# Altium schematic symbol library conn_terminalB.SchLib: 523 symbols (part 3 of 4)
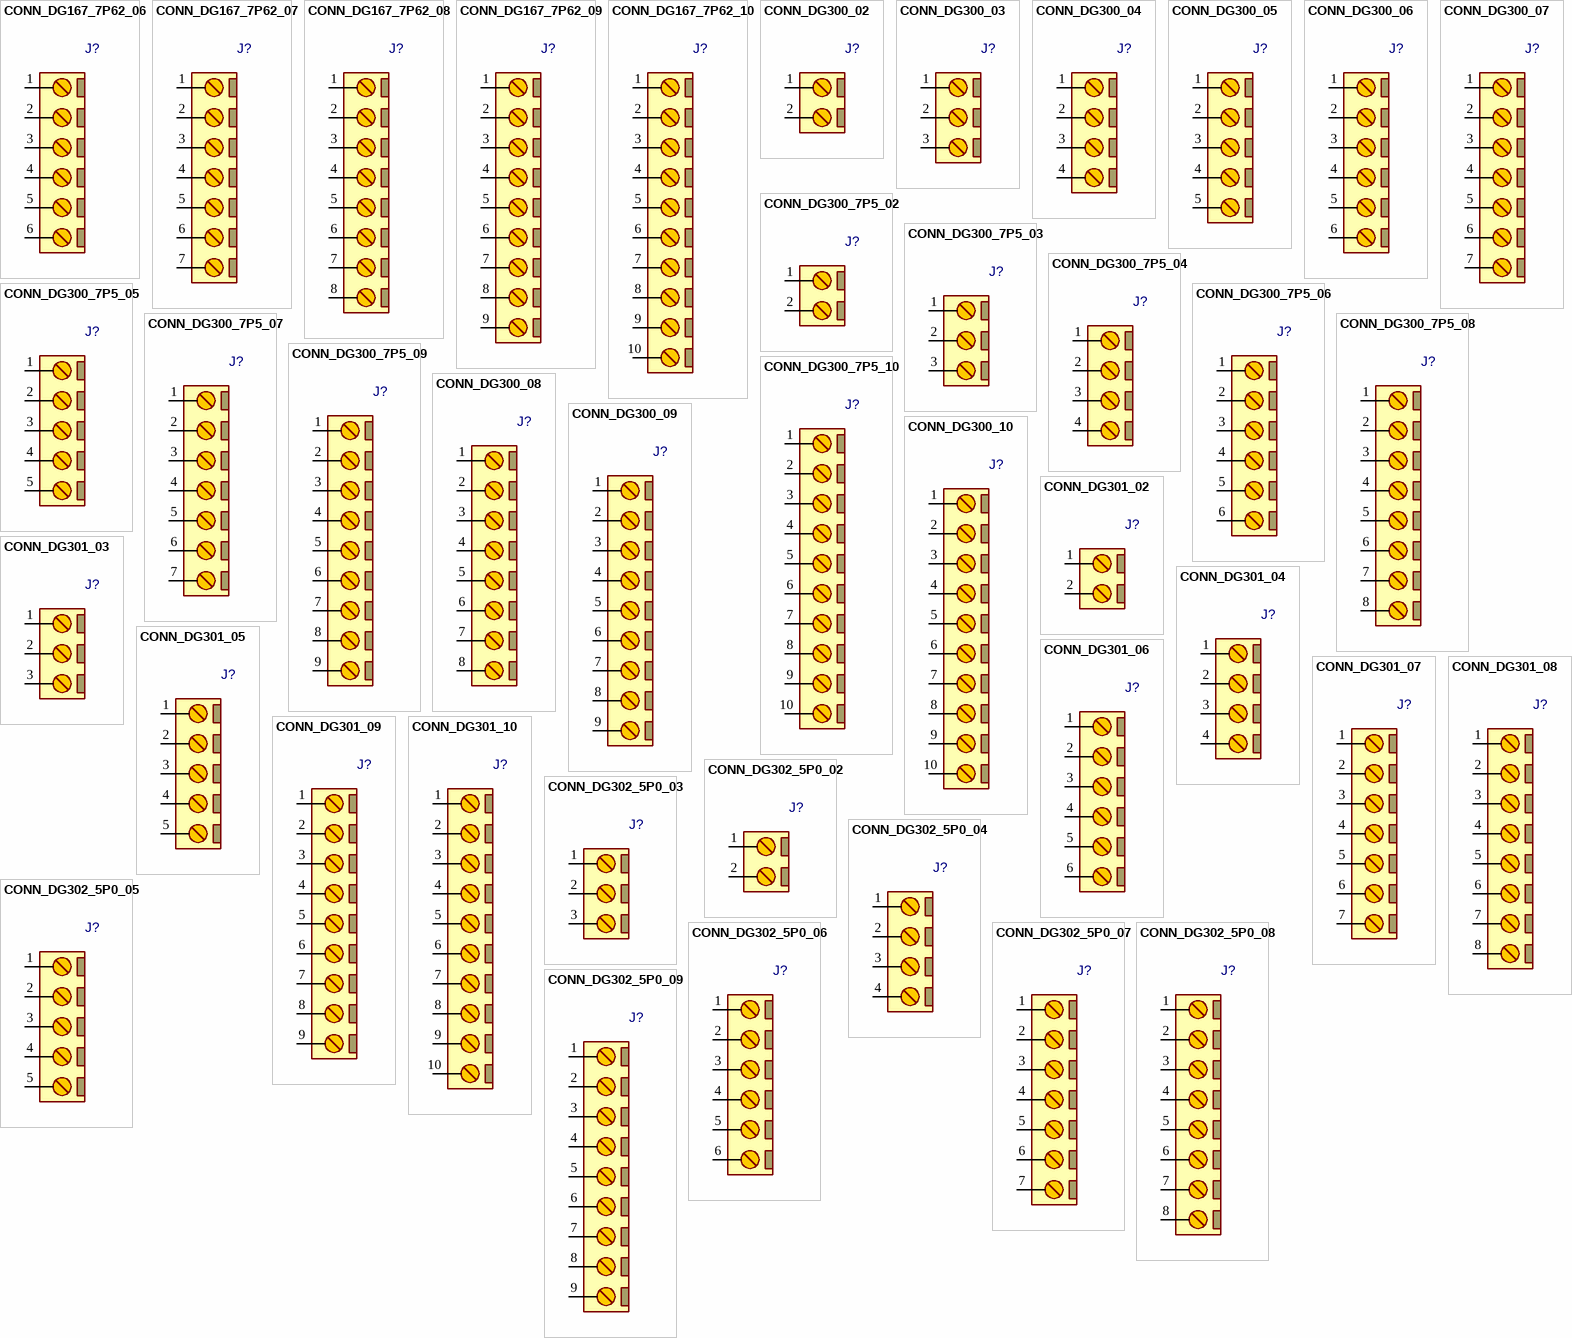
[diagram p15: symbols CONN_DG167_7P62_06 to CONN_DG302_5P0_09]

## CONN_DG300_7P5_09
designator J?, comment DG300_7P5_09  (value not drawn)
Terminal Block Screw, Pitch 7.5mm, H 12.6mm; MANF: DEGSON; MANF_P#: DG300-7.5-09P; PARAM2: 300v, -40~105°C; PARAM: 10A; VALUE: DG300_7P5_09; Mount Type: THT; Type: Conn.
footprint DG300_7P5_09 (Terminal B screw, Pitch 7.5mm, H 12.6mm)
pins: 1, 2, 3, 4, 5, 6, 7, 8, 9

## CONN_DG300_7P5_10
designator J?, comment DG300_7P5_10  (value not drawn)
Terminal Block Screw, Pitch 7.5mm, H 12.6mm; MANF: DEGSON; MANF_P#: DG300-7.5-10P; PARAM2: 300v, -40~105°C; PARAM: 10A; VALUE: DG300_7P5_10; Mount Type: THT; Type: Conn.
footprint DG300_7P5_10 (Terminal B screw, Pitch 7.5mm, H 12.6mm)
pins: 1, 2, 3, 4, 5, 6, 7, 8, 9, 10

## CONN_DG300_08
designator J?, comment DG300_5P0_08  (value not drawn)
Terminal Block Screw, Pitch 5mm, H 12.6mm; MANF: DEGSON; MANF_P#: DG300-5.0-08P, KF300-5.0-8P; PARAM2: 250v, -40~105°C; PARAM: 10A; VALUE: DG300_5P0_08; Mount Type: THT; Type: Conn.
footprint DG300_5P0_08 (Terminal Screw, Pitch 5mm, H 12.6mm)
pins: 1, 2, 3, 4, 5, 6, 7, 8

## CONN_DG300_09
designator J?, comment DG300_5P0_09  (value not drawn)
Terminal Block Screw, Pitch 5mm, H 12.6mm; MANF: DEGSON; MANF_P#: DG300-5.0-09P, KF300-5.0-9P; PARAM2: 250v, -40~105°C; PARAM: 10A; VALUE: DG300_5P0_09; Mount Type: THT; Type: Conn.
footprint DG300_5P0_09 (Terminal Screw, Pitch 5mm, H 12.6mm)
pins: 1, 2, 3, 4, 5, 6, 7, 8, 9

## CONN_DG300_10
designator J?, comment DG300_5P0_10  (value not drawn)
Terminal Block Screw, Pitch 5mm, H 12.6mm; MANF: DEGSON; MANF_P#: DG300-5.0-10P, KF300-5.0-10P; PARAM2: 250v, -40~105°C; PARAM: 10A; VALUE: DG300_5P0_10; Mount Type: THT; Type: Conn.
footprint DG300_5P0_10 (Terminal Screw, Pitch 5mm, H 12.6mm)
pins: 1, 2, 3, 4, 5, 6, 7, 8, 9, 10

## CONN_DG301_02
designator J?, comment DG301_5P0_02  (value not drawn)
Terminal Block Screw, Pitch 5mm, H 10mm; MANF: DEGSON; MANF_P#: DG301-5.0-02P, KF301-5.0-2P; PARAM2: 250v, -40~105°C; PARAM: 15A; VALUE: DG301_5P0_02; Mount Type: THT; Type: Conn.
footprint DG301_02 (Terminal Screw, Pitch 5mm, Blue, H 10mm)
footprint DG301_02_WS (Terminal Screw, Pitch 5mm, H 10mm, with spade)
pins: 1, 2

## CONN_DG301_03
designator J?, comment DG301_5P0_03  (value not drawn)
Terminal Block Screw, Pitch 5mm, H 10mm; MANF: DEGSON; MANF_P#: DG301-5.0-03P, KF301-5.0-3P; PARAM2: 250v, -40~105°C; PARAM: 15A; VALUE: DG301_5P0_03; Mount Type: THT; Type: Conn.
footprint DG301_03 (Terminal Screw, Pitch 5mm, Blue, H 10mm)
footprint DG301_03_WS (Terminal Screw, Pitch 5mm, H 10mm, with spade)
pins: 1, 2, 3

## CONN_DG301_04
designator J?, comment DG301_5P0_04  (value not drawn)
Terminal Block Screw, Pitch 5mm, H 10mm; MANF: DEGSON; MANF_P#: DG301-5.0-04P, KF301-5.0-4P; PARAM2: 250v, -40~105°C; PARAM: 15A; VALUE: DG301_5P0_04; Mount Type: THT; Type: Conn.
footprint DG301_04 (Terminal Screw, Pitch 5mm, Blue, H 10mm)
footprint DG301_04_WS (Terminal Screw, Pitch 5mm, H 10mm, with spade)
pins: 1, 2, 3, 4

## CONN_DG301_05
designator J?, comment DG301_5P0_05  (value not drawn)
Terminal Block Screw, Pitch 5mm, H 10mm; MANF: DEGSON; MANF_P#: DG301-5.0-05P, KF301-5.0-5P; PARAM2: 250v, -40~105°C; PARAM: 15A; VALUE: DG301_5P0_05; Mount Type: THT; Type: Conn.
footprint DG301_05 (Terminal Screw, Pitch 5mm, Blue, H 10mm)
footprint DG301_05_WS (Terminal Screw, Pitch 5mm, H 10mm, with spade)
pins: 1, 2, 3, 4, 5

## CONN_DG301_06
designator J?, comment DG301_5P0_06  (value not drawn)
Terminal Block Screw, Pitch 5mm, H 10mm; MANF: DEGSON; MANF_P#: DG301-5.0-06P, KF301-5.0-6P; PARAM2: 250v, -40~105°C; PARAM: 15A; VALUE: DG301_5P0_06; Mount Type: THT; Type: Conn.
footprint DG301_06 (Terminal Screw, Pitch 5mm, Blue, H 10mm)
footprint DG301_06_WS (Terminal Screw, Pitch 5mm, H 10mm, with spade)
pins: 1, 2, 3, 4, 5, 6

## CONN_DG301_07
designator J?, comment DG301_5P0_07  (value not drawn)
Terminal Block Screw, Pitch 5mm, H 10mm; MANF: DEGSON; MANF_P#: DG301-5.0-07P, KF301-5.0-7P; PARAM2: 250v, -40~105°C; PARAM: 15A; VALUE: DG301_5P0_07; Mount Type: THT; Type: Conn.
footprint DG301_07 (Terminal Screw, Pitch 5mm, Blue, H 10mm)
footprint DG301_07_WS (Terminal Screw, Pitch 5mm, H 10mm, with spade)
pins: 1, 2, 3, 4, 5, 6, 7

## CONN_DG301_08
designator J?, comment DG301_5P0_08  (value not drawn)
Terminal Block Screw, Pitch 5mm, H 10mm; MANF: DEGSON; MANF_P#: DG301-5.0-08P, KF301-5.0-8P; PARAM2: 250v, -40~105°C; PARAM: 15A; VALUE: DG301_5P0_08; Mount Type: THT; Type: Conn.
footprint DG301_08 (Terminal Screw, Pitch 5mm, Blue, H 10mm)
footprint DG301_08_WS (Terminal Screw, Pitch 5mm, H 10mm, with spade)
pins: 1, 2, 3, 4, 5, 6, 7, 8

## CONN_DG301_09
designator J?, comment DG301_5P0_09  (value not drawn)
Terminal Block Screw, Pitch 5mm, H 10mm; MANF: DEGSON; MANF_P#: DG301-5.0-09P, KF301-5.0-9P; PARAM2: 250v, -40~105°C; PARAM: 15A; VALUE: DG301_5P0_09; Mount Type: THT; Type: Conn.
footprint DG301_09 (Terminal Screw, Pitch 5mm, Blue, H 10mm)
footprint DG301_09_WS (Terminal Screw, Pitch 5mm, H 10mm, with spade)
pins: 1, 2, 3, 4, 5, 6, 7, 8, 9

## CONN_DG301_10
designator J?, comment DG301_5P0_10  (value not drawn)
Terminal Block Screw, Pitch 5mm, H 10mm; MANF: DEGSON; MANF_P#: DG301-5.0-10P, KF301-5.0-10P; PARAM2: 250v, -40~105°C; PARAM: 15A; VALUE: DG301_5P0_10; Mount Type: THT; Type: Conn.
footprint DG301_10 (Terminal Screw, Pitch 5mm, Blue, H 10mm)
footprint DG301_10_WS (Terminal Screw, Pitch 5mm, H 10mm, with spade)
pins: 1, 2, 3, 4, 5, 6, 7, 8, 9, 10

## CONN_DG302_5P0_02
designator J?, comment DG302_5P0_02  (value not drawn)
Terminal Block Screw, Pitch 5mm, H 13.5mm; MANF: DEGSON; MANF_P#: DG302-5.0-02P; PARAM2: 250v, -40~105°C; PARAM: 20A; VALUE: DG302_5P0_02; Mount Type: THT; Type: Conn.
footprint DG302_5P0_02 (Terminal Screw, Pitch 5mm, H 13.5mm)
pins: 1, 2

## CONN_DG302_5P0_03
designator J?, comment DG302_5P0_03  (value not drawn)
Terminal Block Screw, Pitch 5mm, H 13.5mm; MANF: DEGSON; MANF_P#: DG302-5.0-03P; PARAM2: 250v, -40~105°C; PARAM: 20A; VALUE: DG302_5P0_03; Mount Type: THT; Type: Conn.
footprint DG302_5P0_03 (Terminal Screw, Pitch 5mm, H 13.5mm)
pins: 1, 2, 3

## CONN_DG302_5P0_04
designator J?, comment DG302_5P0_04  (value not drawn)
Terminal Block Screw, Pitch 5mm, H 13.5mm; MANF: DEGSON; MANF_P#: DG302-5.0-04P; PARAM2: 250v, -40~105°C; PARAM: 20A; VALUE: DG302_5P0_04; Mount Type: THT; Type: Conn.
footprint DG302_5P0_04 (Terminal Screw, Pitch 5mm, H 13.5mm)
pins: 1, 2, 3, 4

## CONN_DG302_5P0_05
designator J?, comment DG302_5P0_05  (value not drawn)
Terminal Block Screw, Pitch 5mm, H 13.5mm; MANF: DEGSON; MANF_P#: DG302-5.0-05P; PARAM2: 250v, -40~105°C; PARAM: 20A; VALUE: DG302_5P0_05; Mount Type: THT; Type: Conn.
footprint DG302_5P0_05 (Terminal Screw, Pitch 5mm, H 13.5mm)
pins: 1, 2, 3, 4, 5

## CONN_DG302_5P0_06
designator J?, comment DG302_5P0_06  (value not drawn)
Terminal Block Screw, Pitch 5mm, H 13.5mm; MANF: DEGSON; MANF_P#: DG302-5.0-06P; PARAM2: 250v, -40~105°C; PARAM: 20A; VALUE: DG302_5P0_06; Mount Type: THT; Type: Conn.
footprint DG302_5P0_06 (Terminal Screw, Pitch 5mm, H 13.5mm)
pins: 1, 2, 3, 4, 5, 6

## CONN_DG302_5P0_07
designator J?, comment DG302_5P0_07  (value not drawn)
Terminal Block Screw, Pitch 5mm, H 13.5mm; MANF: DEGSON; MANF_P#: DG302-5.0-07P; PARAM2: 250v, -40~105°C; PARAM: 20A; VALUE: DG302_5P0_07; Mount Type: THT; Type: Conn.
footprint DG302_5P0_07 (Terminal Screw, Pitch 5mm, H 13.5mm)
pins: 1, 2, 3, 4, 5, 6, 7

## CONN_DG302_5P0_08
designator J?, comment DG302_5P0_08  (value not drawn)
Terminal Block Screw, Pitch 5mm, H 13.5mm; MANF: DEGSON; MANF_P#: DG302-5.0-08P; PARAM2: 250v, -40~105°C; PARAM: 20A; VALUE: DG302_5P0_08; Mount Type: THT; Type: Conn.
footprint DG302_5P0_08 (Terminal Screw, Pitch 5mm, H 13.5mm)
pins: 1, 2, 3, 4, 5, 6, 7, 8

## CONN_DG302_5P0_09
designator J?, comment DG302_5P0_09  (value not drawn)
Terminal Block Screw, Pitch 5mm, H 13.5mm; MANF: DEGSON; MANF_P#: DG302-5.0-09P; PARAM2: 250v, -40~105°C; PARAM: 20A; VALUE: DG302_5P0_09; Mount Type: THT; Type: Conn.
footprint DG302_5P0_09 (Terminal Screw, Pitch 5mm, H 13.5mm)
pins: 1, 2, 3, 4, 5, 6, 7, 8, 9

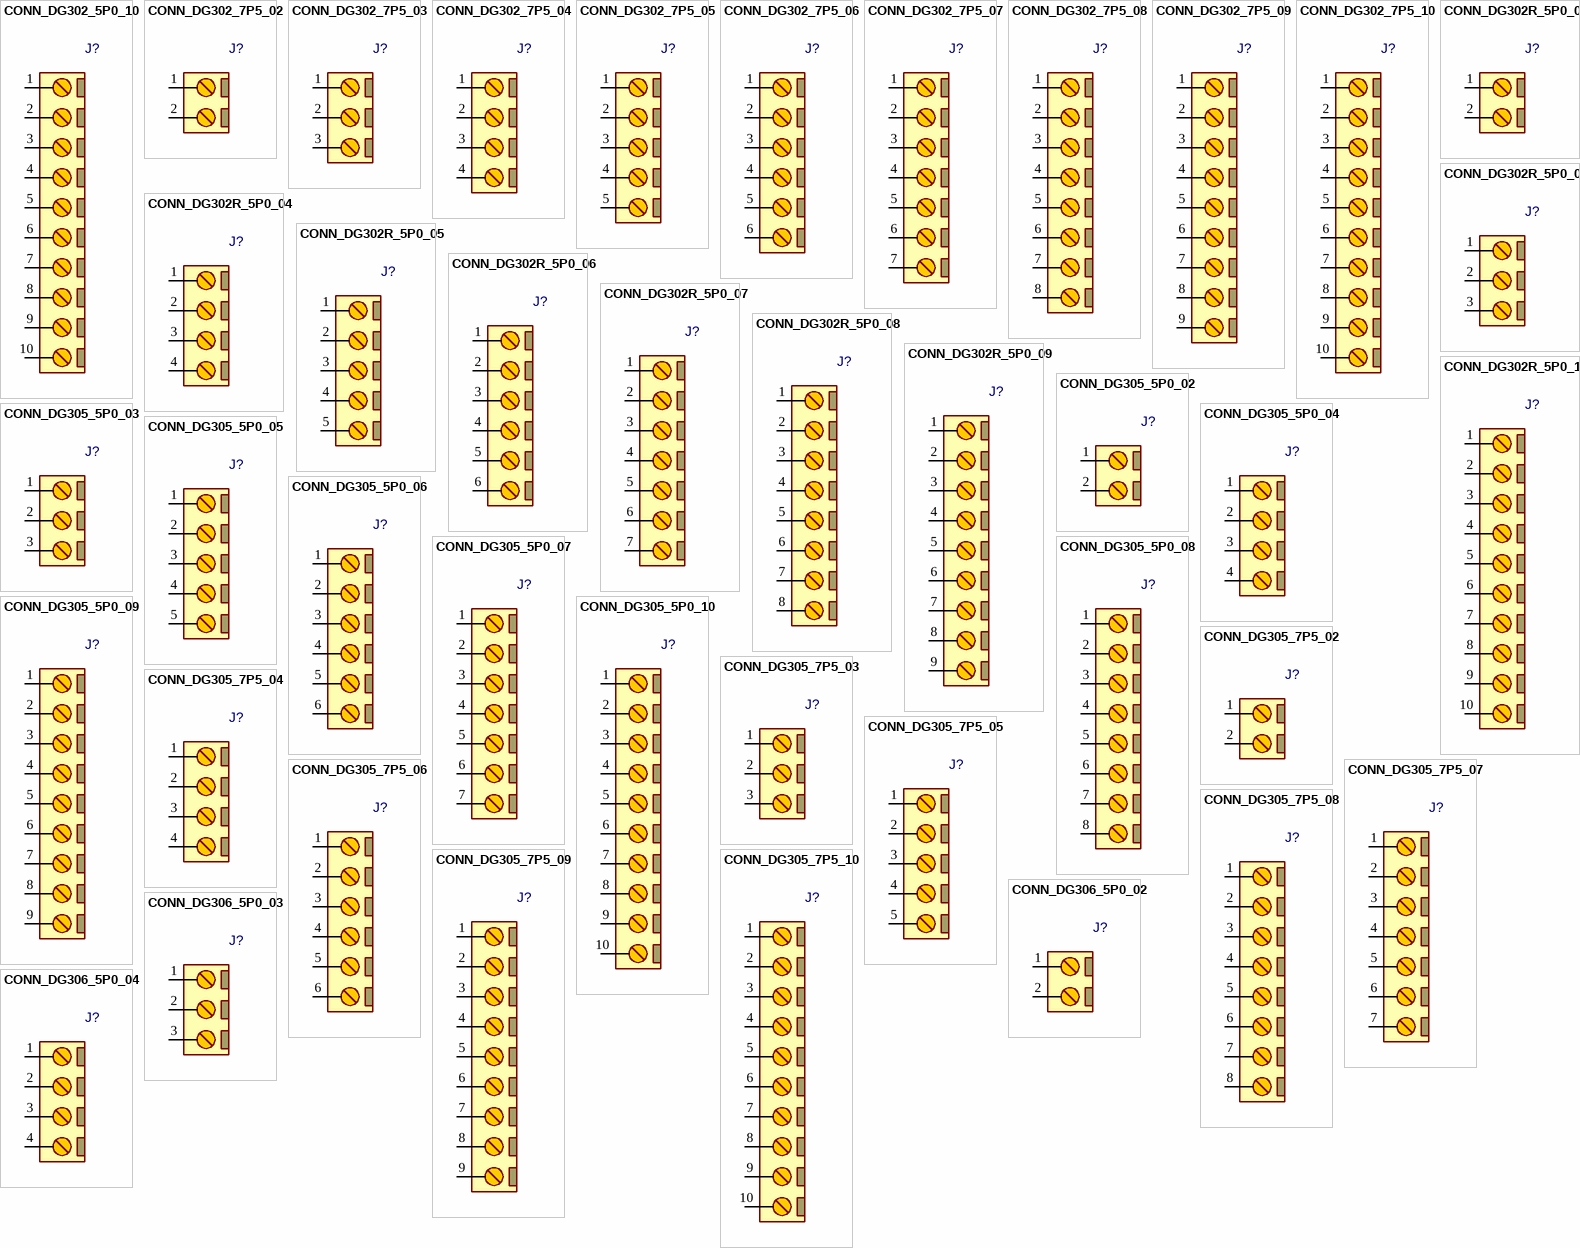
[diagram p7: symbols CONN_DG302_5P0_10 to CONN_DG306_5P0_04]

## CONN_DG302_5P0_10
designator J?, comment DG302_5P0_10  (value not drawn)
Terminal Block Screw, Pitch 5mm, H 13.5mm; MANF: DEGSON; MANF_P#: DG302-5.0-10P; PARAM2: 250v, -40~105°C; PARAM: 20A; VALUE: DG302_5P0_10; Mount Type: THT; Type: Conn.
footprint DG302_5P0_10 (Terminal Screw, Pitch 5mm, H 13.5mm)
pins: 1, 2, 3, 4, 5, 6, 7, 8, 9, 10

## CONN_DG302_7P5_02
designator J?, comment DG302_7P5_02  (value not drawn)
Terminal Block Screw, Pitch 7.5mm, H 13.5mm; MANF: DEGSON; MANF_P#: DG302-7.5-02P; PARAM2: 300v, -40~105°C; PARAM: 20A; VALUE: DG302_7P5_02; Mount Type: THT; Type: Conn.
footprint DG302_7P5_02 (Terminal B screw, Pitch 7.5mm, H 13.5mm)
pins: 1, 2

## CONN_DG302_7P5_03
designator J?, comment DG302_7P5_03  (value not drawn)
Terminal Block Screw, Pitch 7.5mm, H 13.5mm; MANF: DEGSON; MANF_P#: DG302-7.5-03P; PARAM2: 300v, -40~105°C; PARAM: 20A; VALUE: DG302_7P5_03; Mount Type: THT; Type: Conn.
footprint DG302_7P5_03 (Terminal B screw, Pitch 7.5mm, H 13.5mm)
pins: 1, 2, 3

## CONN_DG302_7P5_04
designator J?, comment DG302_7P5_04  (value not drawn)
Terminal Block Screw, Pitch 7.5mm, H 13.5mm; MANF: DEGSON; MANF_P#: DG302-7.5-04P; PARAM2: 300v, -40~105°C; PARAM: 20A; VALUE: DG302_7P5_04; Mount Type: THT; Type: Conn.
footprint DG302_7P5_04 (Terminal B screw, Pitch 7.5mm, H 13.5mm)
pins: 1, 2, 3, 4

## CONN_DG302_7P5_05
designator J?, comment DG302_7P5_05  (value not drawn)
Terminal Block Screw, Pitch 7.5mm, H 13.5mm; MANF: DEGSON; MANF_P#: DG302-7.5-05P; PARAM2: 300v, -40~105°C; PARAM: 20A; VALUE: DG302_7P5_05; Mount Type: THT; Type: Conn.
footprint DG302_7P5_05 (Terminal B screw, Pitch 7.5mm, H 13.5mm)
pins: 1, 2, 3, 4, 5

## CONN_DG302_7P5_06
designator J?, comment DG302_7P5_06  (value not drawn)
Terminal Block Screw, Pitch 7.5mm, H 13.5mm; MANF: DEGSON; MANF_P#: DG302-7.5-06P; PARAM2: 300v, -40~105°C; PARAM: 20A; VALUE: DG302_7P5_06; Mount Type: THT; Type: Conn.
footprint DG302_7P5_06 (Terminal B screw, Pitch 7.5mm, H 13.5mm)
pins: 1, 2, 3, 4, 5, 6

## CONN_DG302_7P5_07
designator J?, comment DG302_7P5_07  (value not drawn)
Terminal Block Screw, Pitch 7.5mm, H 13.5mm; MANF: DEGSON; MANF_P#: DG302-7.5-07P; PARAM2: 300v, -40~105°C; PARAM: 20A; VALUE: DG302_7P5_07; Mount Type: THT; Type: Conn.
footprint DG302_7P5_07 (Terminal B screw, Pitch 7.5mm, H 13.5mm)
pins: 1, 2, 3, 4, 5, 6, 7

## CONN_DG302_7P5_08
designator J?, comment DG302_7P5_08  (value not drawn)
Terminal Block Screw, Pitch 7.5mm, H 13.5mm; MANF: DEGSON; MANF_P#: DG302-7.5-08P; PARAM2: 300v, -40~105°C; PARAM: 20A; VALUE: DG302_7P5_08; Mount Type: THT; Type: Conn.
footprint DG302_7P5_08 (Terminal B screw, Pitch 7.5mm, H 13.5mm)
pins: 1, 2, 3, 4, 5, 6, 7, 8

## CONN_DG302_7P5_09
designator J?, comment DG302_7P5_09  (value not drawn)
Terminal Block Screw, Pitch 7.5mm, H 13.5mm; MANF: DEGSON; MANF_P#: DG302-7.5-09P; PARAM2: 300v, -40~105°C; PARAM: 20A; VALUE: DG302_7P5_09; Mount Type: THT; Type: Conn.
footprint DG302_7P5_09 (Terminal B screw, Pitch 7.5mm, H 13.5mm)
pins: 1, 2, 3, 4, 5, 6, 7, 8, 9

## CONN_DG302_7P5_10
designator J?, comment DG302_7P5_10  (value not drawn)
Terminal Block Screw, Pitch 7.5mm, H 13.5mm; MANF: DEGSON; MANF_P#: DG302-7.5-10P; PARAM2: 300v, -40~105°C; PARAM: 20A; VALUE: DG302_7P5_10; Mount Type: THT; Type: Conn.
footprint DG302_7P5_10 (Terminal B screw, Pitch 7.5mm, H 13.5mm)
pins: 1, 2, 3, 4, 5, 6, 7, 8, 9, 10

## CONN_DG302R_5P0_02
designator J?, comment DG302R_5P0_02  (value not drawn)
Terminal Block Screw, Pitch 5mm, RightAngle, H 9mm; MANF: DEGSON; MANF_P#: DG302R-5.0-02P; PARAM2: 250v, -40~105°C; PARAM: 20A; VALUE: DG302R_5P0_02; Mount Type: THT; Type: Conn.
footprint DG302R_5P0_02 (Terminal Screw, Pitch 5mm, H 9mm)
pins: 1, 2

## CONN_DG302R_5P0_03
designator J?, comment DG302R_5P0_03  (value not drawn)
Terminal Block Screw, Pitch 5mm, RightAngle, H 9mm; MANF: DEGSON; MANF_P#: DG302R-5.0-03P; PARAM2: 250v, -40~105°C; PARAM: 20A; VALUE: DG302R_5P0_03; Mount Type: THT; Type: Conn.
footprint DG302R_5P0_03 (Terminal Screw, Pitch 5mm, H 9mm)
pins: 1, 2, 3

## CONN_DG302R_5P0_04
designator J?, comment DG302R_5P0_04  (value not drawn)
Terminal Block Screw, Pitch 5mm, RightAngle, H 9mm; MANF: DEGSON; MANF_P#: DG302R-5.0-04P; PARAM2: 250v, -40~105°C; PARAM: 20A; VALUE: DG302R_5P0_04; Mount Type: THT; Type: Conn.
footprint DG302R_5P0_04 (Terminal Screw, Pitch 5mm, H 9mm)
pins: 1, 2, 3, 4

## CONN_DG302R_5P0_05
designator J?, comment DG302R_5P0_05  (value not drawn)
Terminal Block Screw, Pitch 5mm, RightAngle, H 9mm; MANF: DEGSON; MANF_P#: DG302R-5.0-05P; PARAM2: 250v, -40~105°C; PARAM: 20A; VALUE: DG302R_5P0_05; Mount Type: THT; Type: Conn.
footprint DG302R_5P0_05 (Terminal Screw, Pitch 5mm, H 9mm)
pins: 1, 2, 3, 4, 5

## CONN_DG302R_5P0_06
designator J?, comment DG302R_5P0_06  (value not drawn)
Terminal Block Screw, Pitch 5mm, RightAngle, H 9mm; MANF: DEGSON; MANF_P#: DG302R-5.0-06P; PARAM2: 250v, -40~105°C; PARAM: 20A; VALUE: DG302R_5P0_06; Mount Type: THT; Type: Conn.
footprint DG302R_5P0_06 (Terminal Screw, Pitch 5mm, H 9mm)
pins: 1, 2, 3, 4, 5, 6

## CONN_DG302R_5P0_07
designator J?, comment DG302R_5P0_07  (value not drawn)
Terminal Block Screw, Pitch 5mm, RightAngle, H 9mm; MANF: DEGSON; MANF_P#: DG302R-5.0-07P; PARAM2: 250v, -40~105°C; PARAM: 20A; VALUE: DG302R_5P0_07; Mount Type: THT; Type: Conn.
footprint DG302R_5P0_07 (Terminal Screw, Pitch 5mm, H 9mm)
pins: 1, 2, 3, 4, 5, 6, 7

## CONN_DG302R_5P0_08
designator J?, comment DG302R_5P0_08  (value not drawn)
Terminal Block Screw, Pitch 5mm, RightAngle, H 9mm; MANF: DEGSON; MANF_P#: DG302R-5.0-08P; PARAM2: 250v, -40~105°C; PARAM: 20A; VALUE: DG302R_5P0_08; Mount Type: THT; Type: Conn.
footprint DG302R_5P0_08 (Terminal Screw, Pitch 5mm, H 9mm)
pins: 1, 2, 3, 4, 5, 6, 7, 8

## CONN_DG302R_5P0_09
designator J?, comment DG302R_5P0_09  (value not drawn)
Terminal Block Screw, Pitch 5mm, RightAngle, H 9mm; MANF: DEGSON; MANF_P#: DG302R-5.0-09P; PARAM2: 250v, -40~105°C; PARAM: 20A; VALUE: DG302R_5P0_09; Mount Type: THT; Type: Conn.
footprint DG302R_5P0_09 (Terminal Screw, Pitch 5mm, H 9mm)
pins: 1, 2, 3, 4, 5, 6, 7, 8, 9

## CONN_DG302R_5P0_10
designator J?, comment DG302R_5P0_10  (value not drawn)
Terminal Block Screw, Pitch 5mm, RightAngle, H 9mm; MANF: DEGSON; MANF_P#: DG302R-5.0-10P; PARAM2: 250v, -40~105°C; PARAM: 20A; VALUE: DG302R_5P0_10; Mount Type: THT; Type: Conn.
footprint DG302R_5P0_10 (Terminal Screw, Pitch 5mm, H 9mm)
pins: 1, 2, 3, 4, 5, 6, 7, 8, 9, 10

## CONN_DG305_5P0_02
designator J?, comment DG305_5P0_02  (value not drawn)
Terminal Block Screw, Pitch 5mm, H 12.6mm; MANF: DEGSON; MANF_P#: DG305-5.0-02P, KF305-5.0-2P; PARAM2: 250v, -40~105°C; PARAM: 15A; VALUE: DG305_5P0_02; Mount Type: THT; Type: Conn.
footprint DG305_5P0_02 (Terminal B Screw, Pitch 5mm, H 12.6mm)
pins: 1, 2

## CONN_DG305_5P0_03
designator J?, comment DG305_5P0_03  (value not drawn)
Terminal Block Screw, Pitch 5mm, H 12.6mm; MANF: DEGSON; MANF_P#: DG305-5.0-03P, KF305-5.0-3P; PARAM2: 250v, -40~105°C; PARAM: 15A; VALUE: DG305_5P0_03; Mount Type: THT; Type: Conn.
footprint DG305_5P0_03 (Terminal B Screw, Pitch 5mm, H 12.6mm)
pins: 1, 2, 3

## CONN_DG305_5P0_04
designator J?, comment DG305_5P0_04  (value not drawn)
Terminal Block Screw, Pitch 5mm, H 12.6mm; MANF: DEGSON; MANF_P#: DG305-5.0-04P, KF305-5.0-4P; PARAM2: 250v, -40~105°C; PARAM: 15A; VALUE: DG305_5P0_04; Mount Type: THT; Type: Conn.
footprint DG305_5P0_04 (Terminal B Screw, Pitch 5mm, H 12.6mm)
pins: 1, 2, 3, 4

## CONN_DG305_5P0_05
designator J?, comment DG305_5P0_05  (value not drawn)
Terminal Block Screw, Pitch 5mm, H 12.6mm; MANF: DEGSON; MANF_P#: DG305-5.0-05P, KF305-5.0-5P; PARAM2: 250v, -40~105°C; PARAM: 15A; VALUE: DG305_5P0_05; Mount Type: THT; Type: Conn.
footprint DG305_5P0_05 (Terminal B Screw, Pitch 5mm, H 12.6mm)
pins: 1, 2, 3, 4, 5

## CONN_DG305_5P0_06
designator J?, comment DG305_5P0_06  (value not drawn)
Terminal Block Screw, Pitch 5mm, H 12.6mm; MANF: DEGSON; MANF_P#: DG305-5.0-06P, KF305-5.0-6P; PARAM2: 250v, -40~105°C; PARAM: 15A; VALUE: DG305_5P0_06; Mount Type: THT; Type: Conn.
footprint DG305_5P0_06 (Terminal B Screw, Pitch 5mm, H 12.6mm)
pins: 1, 2, 3, 4, 5, 6

## CONN_DG305_5P0_07
designator J?, comment DG305_5P0_07  (value not drawn)
Terminal Block Screw, Pitch 5mm, H 12.6mm; MANF: DEGSON; MANF_P#: DG305-5.0-07P, KF305-5.0-7P; PARAM2: 250v, -40~105°C; PARAM: 15A; VALUE: DG305_5P0_07; Mount Type: THT; Type: Conn.
footprint DG305_5P0_07 (Terminal B Screw, Pitch 5mm, H 12.6mm)
pins: 1, 2, 3, 4, 5, 6, 7

## CONN_DG305_5P0_08
designator J?, comment DG305_5P0_08  (value not drawn)
Terminal Block Screw, Pitch 5mm, H 12.6mm; MANF: DEGSON; MANF_P#: DG305-5.0-08P, KF305-5.0-8P; PARAM2: 250v, -40~105°C; PARAM: 15A; VALUE: DG305_5P0_08; Mount Type: THT; Type: Conn.
footprint DG305_5P0_08 (Terminal B Screw, Pitch 5mm, H 12.6mm)
pins: 1, 2, 3, 4, 5, 6, 7, 8

## CONN_DG305_5P0_09
designator J?, comment DG305_5P0_09  (value not drawn)
Terminal Block Screw, Pitch 5mm, H 12.6mm; MANF: DEGSON; MANF_P#: DG305-5.0-09P, KF305-5.0-9P; PARAM2: 250v, -40~105°C; PARAM: 15A; VALUE: DG305_5P0_09; Mount Type: THT; Type: Conn.
footprint DG305_5P0_09 (Terminal B Screw, Pitch 5mm, H 12.6mm)
pins: 1, 2, 3, 4, 5, 6, 7, 8, 9

## CONN_DG305_5P0_10
designator J?, comment DG305_5P0_10  (value not drawn)
Terminal Block Screw, Pitch 5mm, H 12.6mm; MANF: DEGSON; MANF_P#: DG305-5.0-10P, KF305-5.0-10P; PARAM2: 250v, -40~105°C; PARAM: 15A; VALUE: DG305_5P0_10; Mount Type: THT; Type: Conn.
footprint DG305_5P0_10 (Terminal B Screw, Pitch 5mm, H 12.6mm)
pins: 1, 2, 3, 4, 5, 6, 7, 8, 9, 10

## CONN_DG305_7P5_02
designator J?, comment DG305_7P5_02  (value not drawn)
Terminal Block Screw, Pitch 7.5mm, H 12.7mm; MANF: DEGSON; MANF_P#: DG305-7.5-02P; PARAM2: 300v, -40~105°C; PARAM: 15A; VALUE: DG305_7P5_02; Mount Type: THT; Type: Conn.
footprint DG305_7P5_02 (Terminal B screw, Pitch 7.5mm, H 12.7mm)
pins: 1, 2

## CONN_DG305_7P5_03
designator J?, comment DG305_7P5_03  (value not drawn)
Terminal Block Screw, Pitch 7.5mm, H 12.7mm; MANF: DEGSON; MANF_P#: DG305-7.5-03P; PARAM2: 300v, -40~105°C; PARAM: 15A; VALUE: DG305_7P5_03; Mount Type: THT; Type: Conn.
footprint DG305_7P5_03 (Terminal B screw, Pitch 7.5mm, H 12.7mm)
pins: 1, 2, 3

## CONN_DG305_7P5_04
designator J?, comment DG305_7P5_04  (value not drawn)
Terminal Block Screw, Pitch 7.5mm, H 12.7mm; MANF: DEGSON; MANF_P#: DG305-7.5-04P; PARAM2: 300v, -40~105°C; PARAM: 15A; VALUE: DG305_7P5_04; Mount Type: THT; Type: Conn.
footprint DG305_7P5_04 (Terminal B screw, Pitch 7.5mm, H 12.7mm)
pins: 1, 2, 3, 4

## CONN_DG305_7P5_05
designator J?, comment DG305_7P5_05  (value not drawn)
Terminal Block Screw, Pitch 7.5mm, H 12.7mm; MANF: DEGSON; MANF_P#: DG305-7.5-05P; PARAM2: 300v, -40~105°C; PARAM: 15A; VALUE: DG305_7P5_05; Mount Type: THT; Type: Conn.
footprint DG305_7P5_05 (Terminal B screw, Pitch 7.5mm, H 12.7mm)
pins: 1, 2, 3, 4, 5

## CONN_DG305_7P5_06
designator J?, comment DG305_7P5_06  (value not drawn)
Terminal Block Screw, Pitch 7.5mm, H 12.7mm; MANF: DEGSON; MANF_P#: DG305-7.5-06P; PARAM2: 300v, -40~105°C; PARAM: 15A; VALUE: DG305_7P5_06; Mount Type: THT; Type: Conn.
footprint DG305_7P5_06 (Terminal B screw, Pitch 7.5mm, H 12.7mm)
pins: 1, 2, 3, 4, 5, 6

## CONN_DG305_7P5_07
designator J?, comment DG305_7P5_07  (value not drawn)
Terminal Block Screw, Pitch 7.5mm, H 12.7mm; MANF: DEGSON; MANF_P#: DG305-7.5-07P; PARAM2: 300v, -40~105°C; PARAM: 15A; VALUE: DG305_7P5_07; Mount Type: THT; Type: Conn.
footprint DG305_7P5_07 (Terminal B screw, Pitch 7.5mm, H 12.7mm)
pins: 1, 2, 3, 4, 5, 6, 7

## CONN_DG305_7P5_08
designator J?, comment DG305_7P5_08  (value not drawn)
Terminal Block Screw, Pitch 7.5mm, H 12.7mm; MANF: DEGSON; MANF_P#: DG305-7.5-08P; PARAM2: 300v, -40~105°C; PARAM: 15A; VALUE: DG305_7P5_08; Mount Type: THT; Type: Conn.
footprint DG305_7P5_08 (Terminal B screw, Pitch 7.5mm, H 12.7mm)
pins: 1, 2, 3, 4, 5, 6, 7, 8

## CONN_DG305_7P5_09
designator J?, comment DG305_7P5_09  (value not drawn)
Terminal Block Screw, Pitch 7.5mm, H 12.7mm; MANF: DEGSON; MANF_P#: DG305-7.5-09P; PARAM2: 300v, -40~105°C; PARAM: 15A; VALUE: DG305_7P5_09; Mount Type: THT; Type: Conn.
footprint DG305_7P5_09 (Terminal B screw, Pitch 7.5mm, H 12.7mm)
pins: 1, 2, 3, 4, 5, 6, 7, 8, 9

## CONN_DG305_7P5_10
designator J?, comment DG305_7P5_10  (value not drawn)
Terminal Block Screw, Pitch 7.5mm, H 12.7mm; MANF: DEGSON; MANF_P#: DG305-7.5-10P; PARAM2: 300v, -40~105°C; PARAM: 15A; VALUE: DG305_7P5_10; Mount Type: THT; Type: Conn.
footprint DG305_7P5_10 (Terminal B screw, Pitch 7.5mm, H 12.7mm)
pins: 1, 2, 3, 4, 5, 6, 7, 8, 9, 10

## CONN_DG306_5P0_02
designator J?, comment DG306_5P0_02  (value not drawn)
Terminal Block Screw, Pitch 5mm, H 10mm; MANF: DEGSON; MANF_P#: DG306-5.0-02P, KF306-5.0-2P; PARAM2: 250v, -40~105°C; PARAM: 10A; VALUE: DG306_5P0_02; Mount Type: THT; Type: Conn.
footprint DG306_02 (Terminal B Screw, Pitch 5mm, H 10mm)
pins: 1, 2

## CONN_DG306_5P0_03
designator J?, comment DG306_5P0_03  (value not drawn)
Terminal Block Screw, Pitch 5mm, H 10mm; MANF: DEGSON; MANF_P#: DG306-5.0-03P, KF306-5.0-3P; PARAM2: 250v, -40~105°C; PARAM: 10A; VALUE: DG306_5P0_03; Mount Type: THT; Type: Conn.
footprint DG306_03 (Terminal B Screw, Pitch 5mm, H 10mm)
pins: 1, 2, 3

## CONN_DG306_5P0_04
designator J?, comment DG306_5P0_04  (value not drawn)
Terminal Block Screw, Pitch 5mm, H 10mm; MANF: DEGSON; MANF_P#: DG306-5.0-04P, KF306-5.0-4P; PARAM2: 250v, -40~105°C; PARAM: 10A; VALUE: DG306_5P0_04; Mount Type: THT; Type: Conn.
footprint DG306_04 (Terminal B Screw, Pitch 5mm, H 10mm)
pins: 1, 2, 3, 4

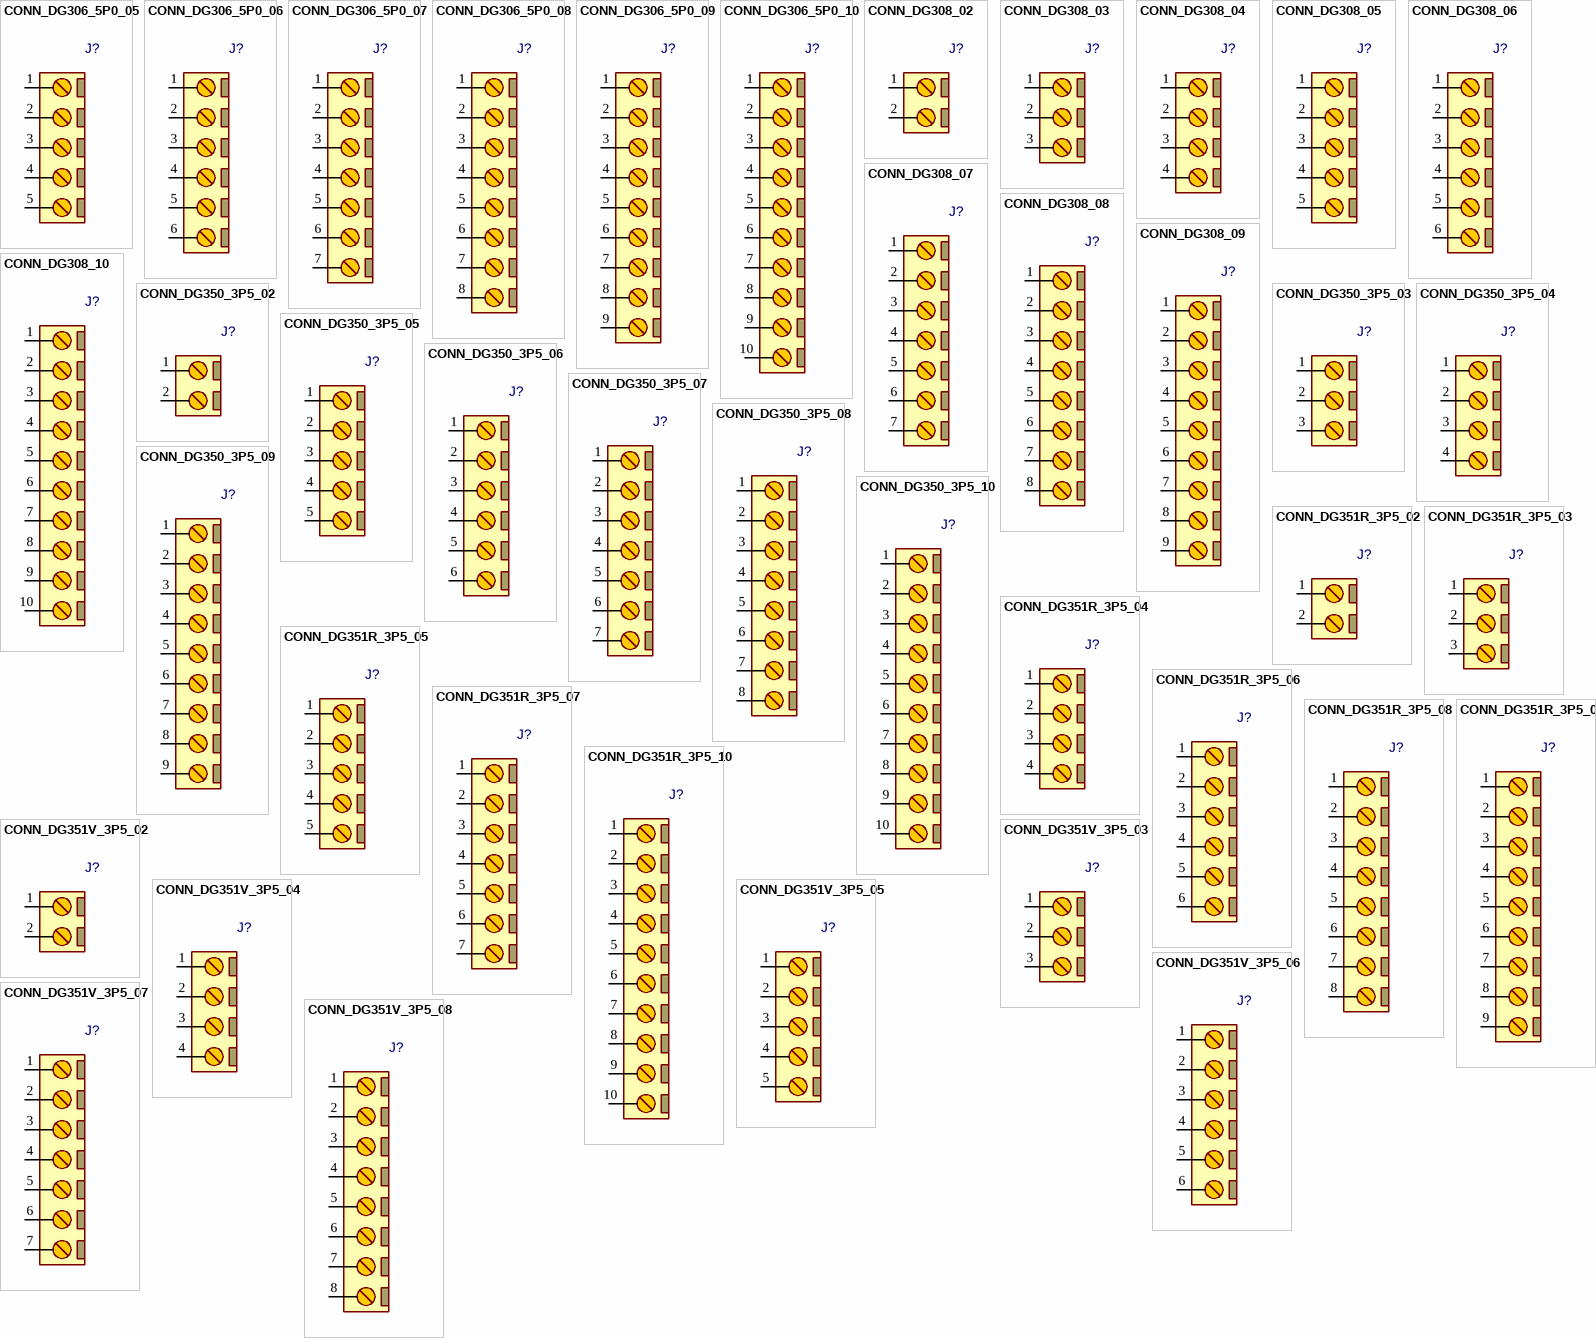
[diagram p8: symbols CONN_DG306_5P0_05 to CONN_DG351V_3P5_08]

## CONN_DG306_5P0_05
designator J?, comment DG306_5P0_05  (value not drawn)
Terminal Block Screw, Pitch 5mm, H 10mm; MANF: DEGSON; MANF_P#: DG306-5.0-05P, KF306-5.0-5P; PARAM2: 250v, -40~105°C; PARAM: 10A; VALUE: DG306_5P0_05; Mount Type: THT; Type: Conn.
footprint DG306_05 (Terminal B Screw, Pitch 5mm, H 10mm)
pins: 1, 2, 3, 4, 5

## CONN_DG306_5P0_06
designator J?, comment DG306_5P0_06  (value not drawn)
Terminal Block Screw, Pitch 5mm, H 10mm; MANF: DEGSON; MANF_P#: DG306-5.0-06P, KF306-5.0-6P; PARAM2: 250v, -40~105°C; PARAM: 10A; VALUE: DG306_5P0_06; Mount Type: THT; Type: Conn.
footprint DG306_06 (Terminal B Screw, Pitch 5mm, H 10mm)
pins: 1, 2, 3, 4, 5, 6

## CONN_DG306_5P0_07
designator J?, comment DG306_5P0_07  (value not drawn)
Terminal Block Screw, Pitch 5mm, H 10mm; MANF: DEGSON; MANF_P#: DG306-5.0-07P, KF306-5.0-7P; PARAM2: 250v, -40~105°C; PARAM: 10A; VALUE: DG306_5P0_07; Mount Type: THT; Type: Conn.
footprint DG306_07 (Terminal B Screw, Pitch 5mm, H 10mm)
pins: 1, 2, 3, 4, 5, 6, 7

## CONN_DG306_5P0_08
designator J?, comment DG306_5P0_08  (value not drawn)
Terminal Block Screw, Pitch 5mm, H 10mm; MANF: DEGSON; MANF_P#: DG306-5.0-08P, KF306-5.0-8P; PARAM2: 250v, -40~105°C; PARAM: 10A; VALUE: DG306_5P0_08; Mount Type: THT; Type: Conn.
footprint DG306_08 (Terminal B Screw, Pitch 5mm, H 10mm)
pins: 1, 2, 3, 4, 5, 6, 7, 8

## CONN_DG306_5P0_09
designator J?, comment DG306_5P0_09  (value not drawn)
Terminal Block Screw, Pitch 5mm, H 10mm; MANF: DEGSON; MANF_P#: DG306-5.0-09P, KF306-5.0-9P; PARAM2: 250v, -40~105°C; PARAM: 10A; VALUE: DG306_5P0_09; Mount Type: THT; Type: Conn.
footprint DG306_09 (Terminal B Screw, Pitch 5mm, H 10mm)
pins: 1, 2, 3, 4, 5, 6, 7, 8, 9

## CONN_DG306_5P0_10
designator J?, comment DG306_5P0_10  (value not drawn)
Terminal Block Screw, Pitch 5mm, H 10mm; MANF: DEGSON; MANF_P#: DG306-5.0-10P, KF306-5.0-10P; PARAM2: 250v, -40~105°C; PARAM: 10A; VALUE: DG306_5P0_10; Mount Type: THT; Type: Conn.
footprint DG306_10 (Terminal B Screw, Pitch 5mm, H 10mm)
pins: 1, 2, 3, 4, 5, 6, 7, 8, 9, 10

## CONN_DG308_02
designator J?, comment DG308_02  (value not drawn)
Terminal Block Screw, Pitch 2.54mm, H 8.6mm; MANF: DEGSON; MANF_P#: DG308-2.54-02P, KF128-2.54-2P; PARAM2: 130v, -40~105°C; PARAM: 8A; VALUE: DG308_02; Mount Type: THT; Type: Conn.
footprint DG308_02 (Terminal Block Screw, Pitch 2.54mm, H 8.6mm)
pins: 1, 2

## CONN_DG308_03
designator J?, comment DG308_03  (value not drawn)
Terminal Block Screw, Pitch 2.54mm, H 8.6mm; MANF: DEGSON; MANF_P#: DG308-2.54-03P, KF128-2.54-3P; PARAM2: 130v, -40~105°C; PARAM: 8A; VALUE: DG308_03; Mount Type: THT; Type: Conn.
footprint DG308_03 (Terminal Block Screw, Pitch 2.54mm, H 8.6mm)
pins: 1, 2, 3

## CONN_DG308_04
designator J?, comment DG308_04  (value not drawn)
Terminal Block Screw, Pitch 2.54mm, H 8.6mm; MANF: DEGSON; MANF_P#: DG308-2.54-04P, KF128-2.54-4P; PARAM2: 130v, -40~105°C; PARAM: 8A; VALUE: DG308_04; Mount Type: THT; Type: Conn.
footprint DG308_04 (Terminal Block Screw, Pitch 2.54mm, H 8.6mm)
pins: 1, 2, 3, 4

## CONN_DG308_05
designator J?, comment DG308_05  (value not drawn)
Terminal Block Screw, Pitch 2.54mm, H 8.6mm; MANF: DEGSON; MANF_P#: DG308-2.54-05P, KF128-2.54-5P; PARAM2: 130v, -40~105°C; PARAM: 8A; VALUE: DG308_05; Mount Type: THT; Type: Conn.
footprint DG308_05 (Terminal Block Screw, Pitch 2.54mm, H 8.6mm)
pins: 1, 2, 3, 4, 5

## CONN_DG308_06
designator J?, comment DG308_06  (value not drawn)
Terminal Block Screw, Pitch 2.54mm, H 8.6mm; MANF: DEGSON; MANF_P#: DG308-2.54-06P, KF128-2.54-6P; PARAM2: 130v, -40~105°C; PARAM: 8A; VALUE: DG308_06; Mount Type: THT; Type: Conn.
footprint DG308_06 (Terminal Block Screw, Pitch 2.54mm, H 8.6mm)
pins: 1, 2, 3, 4, 5, 6

## CONN_DG308_07
designator J?, comment DG308_07  (value not drawn)
Terminal Block Screw, Pitch 2.54mm, H 8.6mm; MANF: DEGSON; MANF_P#: DG308-2.54-07P, KF128-2.54-7P; PARAM2: 130v, -40~105°C; PARAM: 8A; VALUE: DG308_07; Mount Type: THT; Type: Conn.
footprint DG308_07 (Terminal Block Screw, Pitch 2.54mm, H 8.6mm)
pins: 1, 2, 3, 4, 5, 6, 7

## CONN_DG308_08
designator J?, comment DG308_08  (value not drawn)
Terminal Block Screw, Pitch 2.54mm, H 8.6mm; MANF: DEGSON; MANF_P#: DG308-2.54-08P, KF128-2.54-8P; PARAM2: 130v, -40~105°C; PARAM: 8A; VALUE: DG308_08; Mount Type: THT; Type: Conn.
footprint DG308_08 (Terminal Block Screw, Pitch 2.54mm, H 8.6mm)
pins: 1, 2, 3, 4, 5, 6, 7, 8

## CONN_DG308_09
designator J?, comment DG308_09  (value not drawn)
Terminal Block Screw, Pitch 2.54mm, H 8.6mm; MANF: DEGSON; MANF_P#: DG308-2.54-09P, KF128-2.54-9P; PARAM2: 130v, -40~105°C; PARAM: 8A; VALUE: DG308_09; Mount Type: THT; Type: Conn.
footprint DG308_09 (Terminal Block Screw, Pitch 2.54mm, H 8.6mm)
pins: 1, 2, 3, 4, 5, 6, 7, 8, 9

## CONN_DG308_10
designator J?, comment DG308_10  (value not drawn)
Terminal Block Screw, Pitch 2.54mm, H 8.6mm; MANF: DEGSON; MANF_P#: DG308-2.54-10P, KF128-2.54-10P; PARAM2: 130v, -40~105°C; PARAM: 8A; VALUE: DG308_10; Mount Type: THT; Type: Conn.
footprint DG308_10 (Terminal Block Screw, Pitch 2.54mm, H 8.6mm)
pins: 1, 2, 3, 4, 5, 6, 7, 8, 9, 10

## CONN_DG350_3P5_02
designator J?, comment DG350_3P5_02  (value not drawn)
Terminal Block Screw, Pitch 3.5mm, H 8.6mm; MANF: DEGSON; MANF_P#: DG350-3.5-02P; PARAM2: 130v, -40~105°C; PARAM: 10A; VALUE: DG350_3P5_02; Mount Type: THT; Type: Conn.
footprint DG350_3P5_02 (Terminal Block Screw, Pitch 3.5mm, H 8.6mm)
pins: 1, 2

## CONN_DG350_3P5_03
designator J?, comment DG350_3P5_03  (value not drawn)
Terminal Block Screw, Pitch 3.5mm, H 8.6mm; MANF: DEGSON; MANF_P#: DG350-3.5-03P; PARAM2: 130v, -40~105°C; PARAM: 10A; VALUE: DG350_3P5_03; Mount Type: THT; Type: Conn.
footprint DG350_3P5_03 (Terminal Block Screw, Pitch 3.5mm, H 8.6mm)
pins: 1, 2, 3

## CONN_DG350_3P5_04
designator J?, comment DG350_3P5_04  (value not drawn)
Terminal Block Screw, Pitch 3.5mm, H 8.6mm; MANF: DEGSON; MANF_P#: DG350-3.5-04P; PARAM2: 130v, -40~105°C; PARAM: 10A; VALUE: DG350_3P5_04; Mount Type: THT; Type: Conn.
footprint DG350_3P5_04 (Terminal Block Screw, Pitch 3.5mm, H 8.6mm)
pins: 1, 2, 3, 4

## CONN_DG350_3P5_05
designator J?, comment DG350_3P5_05  (value not drawn)
Terminal Block Screw, Pitch 3.5mm, H 8.6mm; MANF: DEGSON; MANF_P#: DG350-3.5-05P; PARAM2: 130v, -40~105°C; PARAM: 10A; VALUE: DG350_3P5_05; Mount Type: THT; Type: Conn.
footprint DG350_3P5_05 (Terminal Block Screw, Pitch 3.5mm, H 8.6mm)
pins: 1, 2, 3, 4, 5

## CONN_DG350_3P5_06
designator J?, comment DG350_3P5_06  (value not drawn)
Terminal Block Screw, Pitch 3.5mm, H 8.6mm; MANF: DEGSON; MANF_P#: DG350-3.5-06P; PARAM2: 130v, -40~105°C; PARAM: 10A; VALUE: DG350_3P5_06; Mount Type: THT; Type: Conn.
footprint DG350_3P5_06 (Terminal Block Screw, Pitch 3.5mm, H 8.6mm)
pins: 1, 2, 3, 4, 5, 6

## CONN_DG350_3P5_07
designator J?, comment DG350_3P5_07  (value not drawn)
Terminal Block Screw, Pitch 3.5mm, H 8.6mm; MANF: DEGSON; MANF_P#: DG350-3.5-07P; PARAM2: 130v, -40~105°C; PARAM: 10A; VALUE: DG350_3P5_07; Mount Type: THT; Type: Conn.
footprint DG350_3P5_07 (Terminal Block Screw, Pitch 3.5mm, H 8.6mm)
pins: 1, 2, 3, 4, 5, 6, 7

## CONN_DG350_3P5_08
designator J?, comment DG350_3P5_08  (value not drawn)
Terminal Block Screw, Pitch 3.5mm, H 8.6mm; MANF: DEGSON; MANF_P#: DG350-3.5-08P; PARAM2: 130v, -40~105°C; PARAM: 10A; VALUE: DG350_3P5_08; Mount Type: THT; Type: Conn.
footprint DG350_3P5_08 (Terminal Block Screw, Pitch 3.5mm, H 8.6mm)
pins: 1, 2, 3, 4, 5, 6, 7, 8

## CONN_DG350_3P5_09
designator J?, comment DG350_3P5_09  (value not drawn)
Terminal Block Screw, Pitch 3.5mm, H 8.6mm; MANF: DEGSON; MANF_P#: DG350-3.5-09P; PARAM2: 130v, -40~105°C; PARAM: 10A; VALUE: DG350_3P5_09; Mount Type: THT; Type: Conn.
footprint DG350_3P5_09 (Terminal Block Screw, Pitch 3.5mm, H 8.6mm)
pins: 1, 2, 3, 4, 5, 6, 7, 8, 9

## CONN_DG350_3P5_10
designator J?, comment DG350_3P5_10  (value not drawn)
Terminal Block Screw, Pitch 3.5mm, H 8.6mm; MANF: DEGSON; MANF_P#: DG350-3.5-10P; PARAM2: 130v, -40~105°C; PARAM: 10A; VALUE: DG350_3P5_10; Mount Type: THT; Type: Conn.
footprint DG350_3P5_10 (Terminal Block Screw, Pitch 3.5mm, H 8.6mm)
pins: 1, 2, 3, 4, 5, 6, 7, 8, 9, 10

## CONN_DG351R_3P5_02
designator J?, comment DG351R_3P5_02  (value not drawn)
Terminal Block Screw, Pitch 3.5mm, H 7.6mm; MANF: DEGSON; MANF_P#: DG351R-3.5-02P; PARAM2: 200v, -40~105°C; PARAM: 17.5A; VALUE: DG351R_3P5_02; Mount Type: THT; Type: Conn.
footprint DG351R_3P5_02 (Terminal Block Screw, Pitch 3.5mm, H 8.6mm)
pins: 1, 2

## CONN_DG351R_3P5_03
designator J?, comment DG351R_3P5_03  (value not drawn)
Terminal Block Screw, Pitch 3.5mm, H 7.6mm; MANF: DEGSON; MANF_P#: DG351R-3.5-03P; PARAM2: 200v, -40~105°C; PARAM: 17.5A; VALUE: DG351R_3P5_03; Mount Type: THT; Type: Conn.
footprint DG351R_3P5_03 (Terminal Block Screw, Pitch 3.5mm, H 7.6mm)
pins: 1, 2, 3

## CONN_DG351R_3P5_04
designator J?, comment DG351R_3P5_04  (value not drawn)
Terminal Block Screw, Pitch 3.5mm, H 7.6mm; MANF: DEGSON; MANF_P#: DG351R-3.5-04P; PARAM2: 200v, -40~105°C; PARAM: 17.5A; VALUE: DG351R_3P5_04; Mount Type: THT; Type: Conn.
footprint DG351R_3P5_04 (Terminal Block Screw, Pitch 3.5mm, H 7.6mm)
pins: 1, 2, 3, 4

## CONN_DG351R_3P5_05
designator J?, comment DG351R_3P5_05  (value not drawn)
Terminal Block Screw, Pitch 3.5mm, H 7.6mm; MANF: DEGSON; MANF_P#: DG351R-3.5-05P; PARAM2: 200v, -40~105°C; PARAM: 17.5A; VALUE: DG351R_3P5_05; Mount Type: THT; Type: Conn.
footprint DG351R_3P5_05 (Terminal Block Screw, Pitch 3.5mm, H 7.6mm)
pins: 1, 2, 3, 4, 5

## CONN_DG351R_3P5_06
designator J?, comment DG351R_3P5_06  (value not drawn)
Terminal Block Screw, Pitch 3.5mm, H 7.6mm; MANF: DEGSON; MANF_P#: DG351R-3.5-06P; PARAM2: 200v, -40~105°C; PARAM: 17.5A; VALUE: DG351R_3P5_06; Mount Type: THT; Type: Conn.
footprint DG351R_3P5_06 (Terminal Block Screw, Pitch 3.5mm, H 7.6mm)
pins: 1, 2, 3, 4, 5, 6

## CONN_DG351R_3P5_07
designator J?, comment DG351R_3P5_07  (value not drawn)
Terminal Block Screw, Pitch 3.5mm, H 7.6mm; MANF: DEGSON; MANF_P#: DG351R-3.5-07P; PARAM2: 200v, -40~105°C; PARAM: 17.5A; VALUE: DG351R_3P5_07; Mount Type: THT; Type: Conn.
footprint DG351R_3P5_07 (Terminal Block Screw, Pitch 3.5mm, H 7.6mm)
pins: 1, 2, 3, 4, 5, 6, 7

## CONN_DG351R_3P5_08
designator J?, comment DG351R_3P5_08  (value not drawn)
Terminal Block Screw, Pitch 3.5mm, H 7.6mm; MANF: DEGSON; MANF_P#: DG351R-3.5-08P; PARAM2: 200v, -40~105°C; PARAM: 17.5A; VALUE: DG351R_3P5_08; Mount Type: THT; Type: Conn.
footprint DG351R_3P5_08 (Terminal Block Screw, Pitch 3.5mm, H 7.6mm)
pins: 1, 2, 3, 4, 5, 6, 7, 8

## CONN_DG351R_3P5_09
designator J?, comment DG351R_3P5_09  (value not drawn)
Terminal Block Screw, Pitch 3.5mm, H 7.6mm; MANF: DEGSON; MANF_P#: DG351R-3.5-09P; PARAM2: 200v, -40~105°C; PARAM: 17.5A; VALUE: DG351R_3P5_09; Mount Type: THT; Type: Conn.
footprint DG351R_3P5_09 (Terminal Block Screw, Pitch 3.5mm, H 7.6mm)
pins: 1, 2, 3, 4, 5, 6, 7, 8, 9

## CONN_DG351R_3P5_10
designator J?, comment DG351R_3P5_10  (value not drawn)
Terminal Block Screw, Pitch 3.5mm, H 7.6mm; MANF: DEGSON; MANF_P#: DG351R-3.5-10P; PARAM2: 200v, -40~105°C; PARAM: 17.5A; VALUE: DG351R_3P5_10; Mount Type: THT; Type: Conn.
footprint DG351R_3P5_10 (Terminal Block Screw, Pitch 3.5mm, H 7.6mm)
pins: 1, 2, 3, 4, 5, 6, 7, 8, 9, 10

## CONN_DG351V_3P5_02
designator J?, comment DG351V_3P5_02  (value not drawn)
Terminal Block Screw, Pitch 3.5mm, H 9.2mm; MANF: DEGSON; MANF_P#: DG351V-3.5-02P; PARAM2: 200v, -40~105°C; PARAM: 17.5A; VALUE: DG351V_3P5_02; Mount Type: THT; Type: Conn.
footprint DG351V_3P5_02 (Terminal Block Screw, Pitch 3.5mm, H 9.2mm)
pins: 1, 2

## CONN_DG351V_3P5_03
designator J?, comment DG351V_3P5_03  (value not drawn)
Terminal Block Screw, Pitch 3.5mm, H 9.2mm; MANF: DEGSON; MANF_P#: DG351V-3.5-03P; PARAM2: 200v, -40~105°C; PARAM: 17.5A; VALUE: DG351V_3P5_03; Mount Type: THT; Type: Conn.
footprint DG351V_3P5_03 (Terminal Block Screw, Pitch 3.5mm, H 9.2mm)
pins: 1, 2, 3

## CONN_DG351V_3P5_04
designator J?, comment DG351V_3P5_04  (value not drawn)
Terminal Block Screw, Pitch 3.5mm, H 9.2mm; MANF: DEGSON; MANF_P#: DG351V-3.5-04P; PARAM2: 200v, -40~105°C; PARAM: 17.5A; VALUE: DG351V_3P5_04; Mount Type: THT; Type: Conn.
footprint DG351V_3P5_04 (Terminal Block Screw, Pitch 3.5mm, H 9.2mm)
pins: 1, 2, 3, 4

## CONN_DG351V_3P5_05
designator J?, comment DG351V_3P5_05  (value not drawn)
Terminal Block Screw, Pitch 3.5mm, H 9.2mm; MANF: DEGSON; MANF_P#: DG351V-3.5-05P; PARAM2: 200v, -40~105°C; PARAM: 17.5A; VALUE: DG351V_3P5_05; Mount Type: THT; Type: Conn.
footprint DG351V_3P5_05 (Terminal Block Screw, Pitch 3.5mm, H 9.2mm)
pins: 1, 2, 3, 4, 5

## CONN_DG351V_3P5_06
designator J?, comment DG351V_3P5_06  (value not drawn)
Terminal Block Screw, Pitch 3.5mm, H 9.2mm; MANF: DEGSON; MANF_P#: DG351V-3.5-06P; PARAM2: 200v, -40~105°C; PARAM: 17.5A; VALUE: DG351V_3P5_06; Mount Type: THT; Type: Conn.
footprint DG351V_3P5_06 (Terminal Block Screw, Pitch 3.5mm, H 9.2mm)
pins: 1, 2, 3, 4, 5, 6

## CONN_DG351V_3P5_07
designator J?, comment DG351V_3P5_07  (value not drawn)
Terminal Block Screw, Pitch 3.5mm, H 9.2mm; MANF: DEGSON; MANF_P#: DG351V-3.5-07P; PARAM2: 200v, -40~105°C; PARAM: 17.5A; VALUE: DG351V_3P5_07; Mount Type: THT; Type: Conn.
footprint DG351V_3P5_07 (Terminal Block Screw, Pitch 3.5mm, H 9.2mm)
pins: 1, 2, 3, 4, 5, 6, 7

## CONN_DG351V_3P5_08
designator J?, comment DG351V_3P5_08  (value not drawn)
Terminal Block Screw, Pitch 3.5mm, H 9.2mm; MANF: DEGSON; MANF_P#: DG351V-3.5-08P; PARAM2: 200v, -40~105°C; PARAM: 17.5A; VALUE: DG351V_3P5_08; Mount Type: THT; Type: Conn.
footprint DG351V_3P5_08 (Terminal Block Screw, Pitch 3.5mm, H 9.2mm)
pins: 1, 2, 3, 4, 5, 6, 7, 8

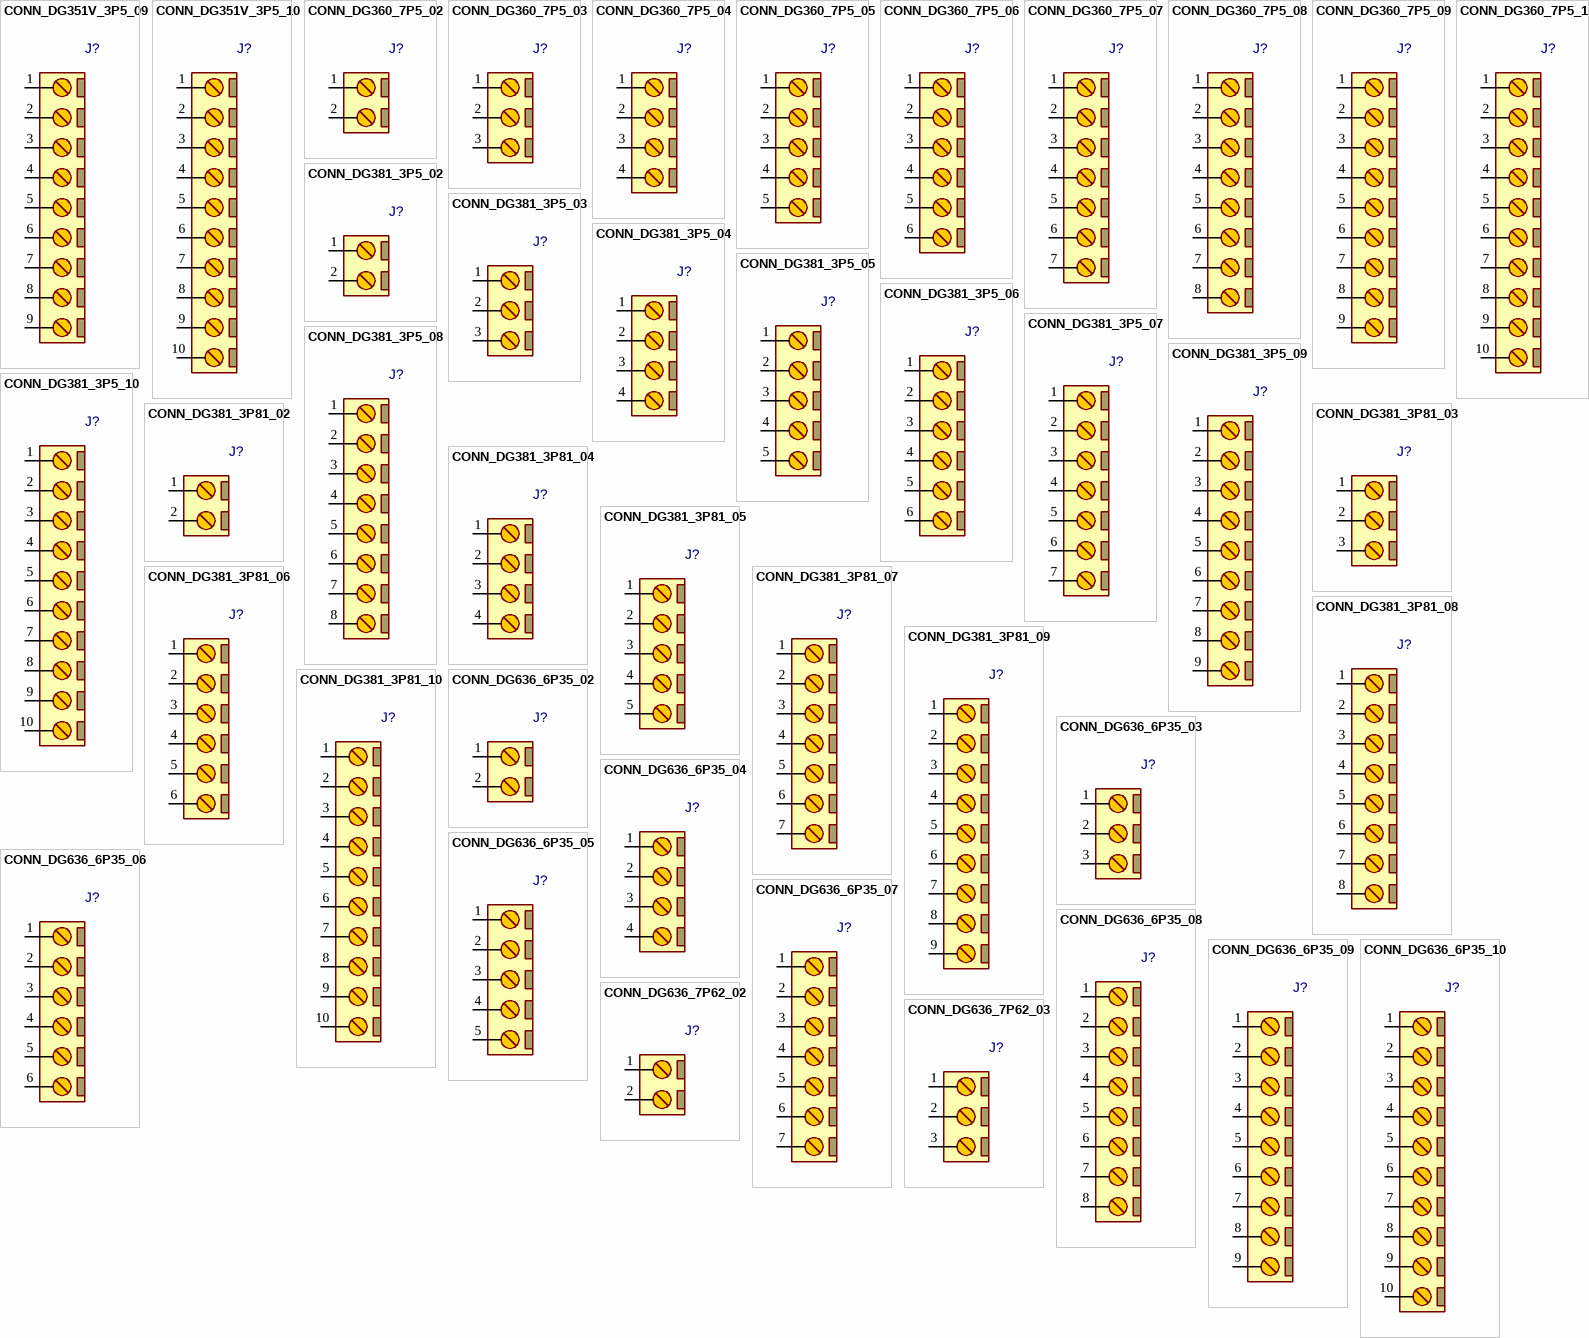
[diagram p9: symbols CONN_DG351V_3P5_09 to CONN_DG636_7P62_03]

## CONN_DG351V_3P5_09
designator J?, comment DG351V_3P5_09  (value not drawn)
Terminal Block Screw, Pitch 3.5mm, H 9.2mm; MANF: DEGSON; MANF_P#: DG351V-3.5-09P; PARAM2: 200v, -40~105°C; PARAM: 17.5A; VALUE: DG351V_3P5_09; Mount Type: THT; Type: Conn.
footprint DG351V_3P5_09 (Terminal Block Screw, Pitch 3.5mm, H 9.2mm)
pins: 1, 2, 3, 4, 5, 6, 7, 8, 9

## CONN_DG351V_3P5_10
designator J?, comment DG351V_3P5_10  (value not drawn)
Terminal Block Screw, Pitch 3.5mm, H 9.2mm; MANF: DEGSON; MANF_P#: DG351V-3.5-10P; PARAM2: 200v, -40~105°C; PARAM: 17.5A; VALUE: DG351V_3P5_10; Mount Type: THT; Type: Conn.
footprint DG351V_3P5_10 (Terminal Block Screw, Pitch 3.5mm, H 9.2mm)
pins: 1, 2, 3, 4, 5, 6, 7, 8, 9, 10

## CONN_DG360_7P5_02
designator J?, comment DG360_7P5_02  (value not drawn)
Terminal Block Screw, Pitch 7.5mm, H 12.7mm; MANF: DEGSON; MANF_P#: DG360-7.5-02P, DG365-7.5-02P; PARAM2: 300v, -40~105°C; PARAM: 15A; VALUE: DG360_7P5_02; Mount Type: THT; Type: Conn.
footprint DG360_02 (Terminal B screw, Pitch 7.5mm, H 12.7mm)
pins: 1, 2

## CONN_DG360_7P5_03
designator J?, comment DG360_7P5_03  (value not drawn)
Terminal Block Screw, Pitch 7.5mm, H 12.7mm; MANF: DEGSON; MANF_P#: DG360-7.5-03P, DG365-7.5-03P; PARAM2: 300v, -40~105°C; PARAM: 15A; VALUE: DG360_7P5_03; Mount Type: THT; Type: Conn.
footprint DG360_03 (Terminal B screw, Pitch 7.5mm, H 12.7mm)
pins: 1, 2, 3

## CONN_DG360_7P5_04
designator J?, comment DG360_7P5_04  (value not drawn)
Terminal Block Screw, Pitch 7.5mm, H 12.7mm; MANF: DEGSON; MANF_P#: DG360-7.5-04P, DG365-7.5-04P; PARAM2: 300v, -40~105°C; PARAM: 15A; VALUE: DG360_7P5_04; Mount Type: THT; Type: Conn.
footprint DG360_04 (Terminal B screw, Pitch 7.5mm, H 12.7mm)
pins: 1, 2, 3, 4

## CONN_DG360_7P5_05
designator J?, comment DG360_7P5_05  (value not drawn)
Terminal Block Screw, Pitch 7.5mm, H 12.7mm; MANF: DEGSON; MANF_P#: DG360-7.5-05P, DG365-7.5-05P; PARAM2: 300v, -40~105°C; PARAM: 15A; VALUE: DG360_7P5_05; Mount Type: THT; Type: Conn.
footprint DG360_05 (Terminal B screw, Pitch 7.5mm, H 12.7mm)
pins: 1, 2, 3, 4, 5

## CONN_DG360_7P5_06
designator J?, comment DG360_7P5_06  (value not drawn)
Terminal Block Screw, Pitch 7.5mm, H 12.7mm; MANF: DEGSON; MANF_P#: DG360-7.5-06P, DG365-7.5-06P; PARAM2: 300v, -40~105°C; PARAM: 15A; VALUE: DG360_7P5_06; Mount Type: THT; Type: Conn.
footprint DG360_06 (Terminal B screw, Pitch 7.5mm, H 12.7mm)
pins: 1, 2, 3, 4, 5, 6

## CONN_DG360_7P5_07
designator J?, comment DG360_7P5_07  (value not drawn)
Terminal Block Screw, Pitch 7.5mm, H 12.7mm; MANF: DEGSON; MANF_P#: DG360-7.5-07P, DG365-7.5-07P; PARAM2: 300v, -40~105°C; PARAM: 15A; VALUE: DG360_7P5_07; Mount Type: THT; Type: Conn.
footprint DG360_07 (Terminal B screw, Pitch 7.5mm, H 12.7mm)
pins: 1, 2, 3, 4, 5, 6, 7

## CONN_DG360_7P5_08
designator J?, comment DG360_7P5_08  (value not drawn)
Terminal Block Screw, Pitch 7.5mm, H 12.7mm; MANF: DEGSON; MANF_P#: DG360-7.5-08P, DG365-7.5-08P; PARAM2: 300v, -40~105°C; PARAM: 15A; VALUE: DG360_7P5_08; Mount Type: THT; Type: Conn.
footprint DG360_08 (Terminal B screw, Pitch 7.5mm, H 12.7mm)
pins: 1, 2, 3, 4, 5, 6, 7, 8

## CONN_DG360_7P5_09
designator J?, comment DG360_7P5_09  (value not drawn)
Terminal Block Screw, Pitch 7.5mm, H 12.7mm; MANF: DEGSON; MANF_P#: DG360-7.5-09P, DG365-7.5-09P; PARAM2: 300v, -40~105°C; PARAM: 15A; VALUE: DG360_7P5_09; Mount Type: THT; Type: Conn.
footprint DG360_09 (Terminal B screw, Pitch 7.5mm, H 12.7mm)
pins: 1, 2, 3, 4, 5, 6, 7, 8, 9

## CONN_DG360_7P5_10
designator J?, comment DG360_7P5_10  (value not drawn)
Terminal Block Screw, Pitch 7.5mm, H 12.7mm; MANF: DEGSON; MANF_P#: DG360-7.5-10P, DG365-7.5-10P; PARAM2: 300v, -40~105°C; PARAM: 15A; VALUE: DG360_7P5_10; Mount Type: THT; Type: Conn.
footprint DG360_10 (Terminal B screw, Pitch 7.5mm, H 12.7mm)
pins: 1, 2, 3, 4, 5, 6, 7, 8, 9, 10

## CONN_DG381_3P5_02
designator J?, comment DG381_3P5_02  (value not drawn)
Terminal Block Screw, Pitch 3.5mm, H 8.6mm; MANF: DEGSON; MANF_P#: DG381-3.5-02P; PARAM2: 130v, -40~105°C; PARAM: 10A; VALUE: DG381_3P5_02; Mount Type: THT; Type: Conn.
footprint DG381_3P5_02 (Terminal Block Screw, Pitch 3.5mm, H 8.6mm)
pins: 1, 2

## CONN_DG381_3P5_03
designator J?, comment DG381_3P5_03  (value not drawn)
Terminal Block Screw, Pitch 3.5mm, H 8.6mm; MANF: DEGSON; MANF_P#: DG381-3.5-03P; PARAM2: 130v, -40~105°C; PARAM: 10A; VALUE: DG381_3P5_03; Mount Type: THT; Type: Conn.
footprint DG381_3P5_03 (Terminal Block Screw, Pitch 3.5mm, H 8.6mm)
pins: 1, 2, 3

## CONN_DG381_3P5_04
designator J?, comment DG381_3P5_04  (value not drawn)
Terminal Block Screw, Pitch 3.5mm, H 8.6mm; MANF: DEGSON; MANF_P#: DG381-3.5-04P; PARAM2: 130v, -40~105°C; PARAM: 10A; VALUE: DG381_3P5_04; Mount Type: THT; Type: Conn.
footprint DG381_3P5_04 (Terminal Block Screw, Pitch 3.5mm, H 8.6mm)
pins: 1, 2, 3, 4

## CONN_DG381_3P5_05
designator J?, comment DG381_3P5_05  (value not drawn)
Terminal Block Screw, Pitch 3.5mm, H 8.6mm; MANF: DEGSON; MANF_P#: DG381-3.5-05P; PARAM2: 130v, -40~105°C; PARAM: 10A; VALUE: DG381_3P5_05; Mount Type: THT; Type: Conn.
footprint DG381_3P5_05 (Terminal Block Screw, Pitch 3.5mm, H 8.6mm)
pins: 1, 2, 3, 4, 5

## CONN_DG381_3P5_06
designator J?, comment DG381_3P5_06  (value not drawn)
Terminal Block Screw, Pitch 3.5mm, H 8.6mm; MANF: DEGSON; MANF_P#: DG381-3.5-06P; PARAM2: 130v, -40~105°C; PARAM: 10A; VALUE: DG381_3P5_06; Mount Type: THT; Type: Conn.
footprint DG381_3P5_06 (Terminal Block Screw, Pitch 3.5mm, H 8.6mm)
pins: 1, 2, 3, 4, 5, 6

## CONN_DG381_3P5_07
designator J?, comment DG381_3P5_07  (value not drawn)
Terminal Block Screw, Pitch 3.5mm, H 8.6mm; MANF: DEGSON; MANF_P#: DG381-3.5-07P; PARAM2: 130v, -40~105°C; PARAM: 10A; VALUE: DG381_3P5_07; Mount Type: THT; Type: Conn.
footprint DG381_3P5_07 (Terminal Block Screw, Pitch 3.5mm, H 8.6mm)
pins: 1, 2, 3, 4, 5, 6, 7

## CONN_DG381_3P5_08
designator J?, comment DG381_3P5_08  (value not drawn)
Terminal Block Screw, Pitch 3.5mm, H 8.6mm; MANF: DEGSON; MANF_P#: DG381-3.5-08P; PARAM2: 130v, -40~105°C; PARAM: 10A; VALUE: DG381_3P5_08; Mount Type: THT; Type: Conn.
footprint DG381_3P5_08 (Terminal Block Screw, Pitch 3.5mm, H 8.6mm)
pins: 1, 2, 3, 4, 5, 6, 7, 8

## CONN_DG381_3P5_09
designator J?, comment DG381_3P5_09  (value not drawn)
Terminal Block Screw, Pitch 3.5mm, H 8.6mm; MANF: DEGSON; MANF_P#: DG381-3.5-09P; PARAM2: 130v, -40~105°C; PARAM: 10A; VALUE: DG381_3P5_09; Mount Type: THT; Type: Conn.
footprint DG381_3P5_09 (Terminal Block Screw, Pitch 3.5mm, H 8.6mm)
pins: 1, 2, 3, 4, 5, 6, 7, 8, 9

## CONN_DG381_3P5_10
designator J?, comment DG381_3P5_10  (value not drawn)
Terminal Block Screw, Pitch 3.5mm, H 8.6mm; MANF: DEGSON; MANF_P#: DG381-3.5-10P; PARAM2: 130v, -40~105°C; PARAM: 10A; VALUE: DG381_3P5_10; Mount Type: THT; Type: Conn.
footprint DG381_3P5_10 (Terminal Block Screw, Pitch 3.5mm, H 8.6mm)
pins: 1, 2, 3, 4, 5, 6, 7, 8, 9, 10

## CONN_DG381_3P81_02
designator J?, comment DG381_3P81_02  (value not drawn)
Terminal Block Screw, Pitch 3.81mm, H 8.6mm; MANF: DEGSON; MANF_P#: DG381-3.81-02P; PARAM2: 150v, -40~105°C; PARAM: 10A; VALUE: DG381_3P81_02; Mount Type: THT; Type: Conn.
footprint DG381_3P81_02 (Terminal Block Screw, Pitch 3.81mm, H 8.6mm)
pins: 1, 2

## CONN_DG381_3P81_03
designator J?, comment DG381_3P81_03  (value not drawn)
Terminal Block Screw, Pitch 3.81mm, H 8.6mm; MANF: DEGSON; MANF_P#: DG381-3.81-03P; PARAM2: 150v, -40~105°C; PARAM: 10A; VALUE: DG381_3P81_03; Mount Type: THT; Type: Conn.
footprint DG381_3P81_03 (Terminal Block Screw, Pitch 3.81mm, H 8.6mm)
pins: 1, 2, 3

## CONN_DG381_3P81_04
designator J?, comment DG381_3P81_04  (value not drawn)
Terminal Block Screw, Pitch 3.81mm, H 8.6mm; MANF: DEGSON; MANF_P#: DG381-3.81-04P; PARAM2: 150v, -40~105°C; PARAM: 10A; VALUE: DG381_3P81_04; Mount Type: THT; Type: Conn.
footprint DG381_3P81_04 (Terminal Block Screw, Pitch 3.81mm, H 8.6mm)
pins: 1, 2, 3, 4

## CONN_DG381_3P81_05
designator J?, comment DG381_3P81_05  (value not drawn)
Terminal Block Screw, Pitch 3.81mm, H 8.6mm; MANF: DEGSON; MANF_P#: DG381-3.81-05P; PARAM2: 150v, -40~105°C; PARAM: 10A; VALUE: DG381_3P81_05; Mount Type: THT; Type: Conn.
footprint DG381_3P81_05 (Terminal Block Screw, Pitch 3.81mm, H 8.6mm)
pins: 1, 2, 3, 4, 5

## CONN_DG381_3P81_06
designator J?, comment DG381_3P81_06  (value not drawn)
Terminal Block Screw, Pitch 3.81mm, H 8.6mm; MANF: DEGSON; MANF_P#: DG381-3.81-06P; PARAM2: 150v, -40~105°C; PARAM: 10A; VALUE: DG381_3P81_06; Mount Type: THT; Type: Conn.
footprint DG381_3P81_06 (Terminal Block Screw, Pitch 3.81mm, H 8.6mm)
pins: 1, 2, 3, 4, 5, 6

## CONN_DG381_3P81_07
designator J?, comment DG381_3P81_07  (value not drawn)
Terminal Block Screw, Pitch 3.81mm, H 8.6mm; MANF: DEGSON; MANF_P#: DG381-3.81-07P; PARAM2: 150v, -40~105°C; PARAM: 10A; VALUE: DG381_3P81_07; Mount Type: THT; Type: Conn.
footprint DG381_3P81_07 (Terminal Block Screw, Pitch 3.81mm, H 8.6mm)
pins: 1, 2, 3, 4, 5, 6, 7

## CONN_DG381_3P81_08
designator J?, comment DG381_3P81_08  (value not drawn)
Terminal Block Screw, Pitch 3.81mm, H 8.6mm; MANF: DEGSON; MANF_P#: DG381-3.81-08P; PARAM2: 150v, -40~105°C; PARAM: 10A; VALUE: DG381_3P81_08; Mount Type: THT; Type: Conn.
footprint DG381_3P81_08 (Terminal Block Screw, Pitch 3.81mm, H 8.6mm)
pins: 1, 2, 3, 4, 5, 6, 7, 8

## CONN_DG381_3P81_09
designator J?, comment DG381_3P81_09  (value not drawn)
Terminal Block Screw, Pitch 3.81mm, H 8.6mm; MANF: DEGSON; MANF_P#: DG381-3.81-09P; PARAM2: 150v, -40~105°C; PARAM: 10A; VALUE: DG381_3P81_09; Mount Type: THT; Type: Conn.
footprint DG381_3P81_09 (Terminal Block Screw, Pitch 3.81mm, H 8.6mm)
pins: 1, 2, 3, 4, 5, 6, 7, 8, 9

## CONN_DG381_3P81_10
designator J?, comment DG381_3P81_10  (value not drawn)
Terminal Block Screw, Pitch 3.81mm, H 8.6mm; MANF: DEGSON; MANF_P#: DG381-3.81-10P; PARAM2: 150v, -40~105°C; PARAM: 10A; VALUE: DG381_3P81_10; Mount Type: THT; Type: Conn.
footprint DG381_3P81_10 (Terminal Block Screw, Pitch 3.81mm, H 8.6mm)
pins: 1, 2, 3, 4, 5, 6, 7, 8, 9, 10

## CONN_DG636_6P35_02
designator J?, comment DG636_6P35_02  (value not drawn)
Terminal Block Screw, Pitch 6.35mm, H 21.5mm; MANF: DEGSON; MANF_P#: DG636-6.35-02P; PARAM2: 300v, -40~105°C; PARAM: 24A; VALUE: DG636_6P35_02; Mount Type: THT; Type: Conn.
footprint DG636_6P35_02 (Terminal B Screw, pitch 6.35mm, H 21.5mm)
pins: 1, 2

## CONN_DG636_6P35_03
designator J?, comment DG636_6P35_03  (value not drawn)
Terminal Block Screw, Pitch 6.35mm, H 21.5mm; MANF: DEGSON; MANF_P#: DG636-6.35-03P; PARAM2: 300v, -40~105°C; PARAM: 24A; VALUE: DG636_6P35_03; Mount Type: THT; Type: Conn.
footprint DG636_6P35_03 (Terminal B Screw, pitch 6.35mm, H 21.5mm)
pins: 1, 2, 3

## CONN_DG636_6P35_04
designator J?, comment DG636_6P35_04  (value not drawn)
Terminal Block Screw, Pitch 6.35mm, H 21.5mm; MANF: DEGSON; MANF_P#: DG636-6.35-04P; PARAM2: 300v, -40~105°C; PARAM: 24A; VALUE: DG636_6P35_04; Mount Type: THT; Type: Conn.
footprint DG636_6P35_04 (Terminal B Screw, pitch 6.35mm, H 21.5mm)
pins: 1, 2, 3, 4

## CONN_DG636_6P35_05
designator J?, comment DG636_6P35_05  (value not drawn)
Terminal Block Screw, Pitch 6.35mm, H 21.5mm; MANF: DEGSON; MANF_P#: DG636-6.35-05P; PARAM2: 300v, -40~105°C; PARAM: 24A; VALUE: DG636_6P35_05; Mount Type: THT; Type: Conn.
footprint DG636_6P35_05 (Terminal B Screw, pitch 6.35mm, H 21.5mm)
pins: 1, 2, 3, 4, 5

## CONN_DG636_6P35_06
designator J?, comment DG636_6P35_06  (value not drawn)
Terminal Block Screw, Pitch 6.35mm, H 21.5mm; MANF: DEGSON; MANF_P#: DG636-6.35-06P; PARAM2: 300v, -40~105°C; PARAM: 24A; VALUE: DG636_6P35_06; Mount Type: THT; Type: Conn.
footprint DG636_6P35_06 (Terminal B Screw, pitch 6.35mm, H 21.5mm)
pins: 1, 2, 3, 4, 5, 6

## CONN_DG636_6P35_07
designator J?, comment DG636_6P35_07  (value not drawn)
Terminal Block Screw, Pitch 6.35mm, H 21.5mm; MANF: DEGSON; MANF_P#: DG636-6.35-07P; PARAM2: 300v, -40~105°C; PARAM: 24A; VALUE: DG636_6P35_07; Mount Type: THT; Type: Conn.
footprint DG636_6P35_07 (Terminal B Screw, pitch 6.35mm, H 21.5mm)
pins: 1, 2, 3, 4, 5, 6, 7

## CONN_DG636_6P35_08
designator J?, comment DG636_6P35_08  (value not drawn)
Terminal Block Screw, Pitch 6.35mm, H 21.5mm; MANF: DEGSON; MANF_P#: DG636-6.35-08P; PARAM2: 300v, -40~105°C; PARAM: 24A; VALUE: DG636_6P35_08; Mount Type: THT; Type: Conn.
footprint DG636_6P35_08 (Terminal B Screw, pitch 6.35mm, H 21.5mm)
pins: 1, 2, 3, 4, 5, 6, 7, 8

## CONN_DG636_6P35_09
designator J?, comment DG636_6P35_09  (value not drawn)
Terminal Block Screw, Pitch 6.35mm, H 21.5mm; MANF: DEGSON; MANF_P#: DG636-6.35-09P; PARAM2: 300v, -40~105°C; PARAM: 24A; VALUE: DG636_6P35_09; Mount Type: THT; Type: Conn.
footprint DG636_6P35_09 (Terminal B Screw, pitch 6.35mm, H 21.5mm)
pins: 1, 2, 3, 4, 5, 6, 7, 8, 9

## CONN_DG636_6P35_10
designator J?, comment DG636_6P35_10  (value not drawn)
Terminal Block Screw, Pitch 6.35mm, H 21.5mm; MANF: DEGSON; MANF_P#: DG636-6.35-10P; PARAM2: 300v, -40~105°C; PARAM: 24A; VALUE: DG636_6P35_10; Mount Type: THT; Type: Conn.
footprint DG636_6P35_10 (Terminal B Screw, pitch 6.35mm, H 21.5mm)
pins: 1, 2, 3, 4, 5, 6, 7, 8, 9, 10

## CONN_DG636_7P62_02
designator J?, comment DG636_7P62_02  (value not drawn)
Terminal Block Screw, Pitch 7.62mm, H 21.5mm; MANF: DEGSON; MANF_P#: DG636-7.62-02P; PARAM2: 450v, -40~105°C; PARAM: 30A; VALUE: DG636_7P62_02; Mount Type: THT; Type: Conn.
footprint DG636_7P62_02 (Terminal Screw, pitch 7.62mm, H 21.5mm)
pins: 1, 2

## CONN_DG636_7P62_03
designator J?, comment DG636_7P62_03  (value not drawn)
Terminal Block Screw, Pitch 7.62mm, H 21.5mm; MANF: DEGSON; MANF_P#: DG636-7.62-03P; PARAM2: 450v, -40~105°C; PARAM: 30A; VALUE: DG636_7P62_03; Mount Type: THT; Type: Conn.
footprint DG636_7P62_03 (Terminal Screw, pitch 7.62mm, H 21.5mm)
pins: 1, 2, 3

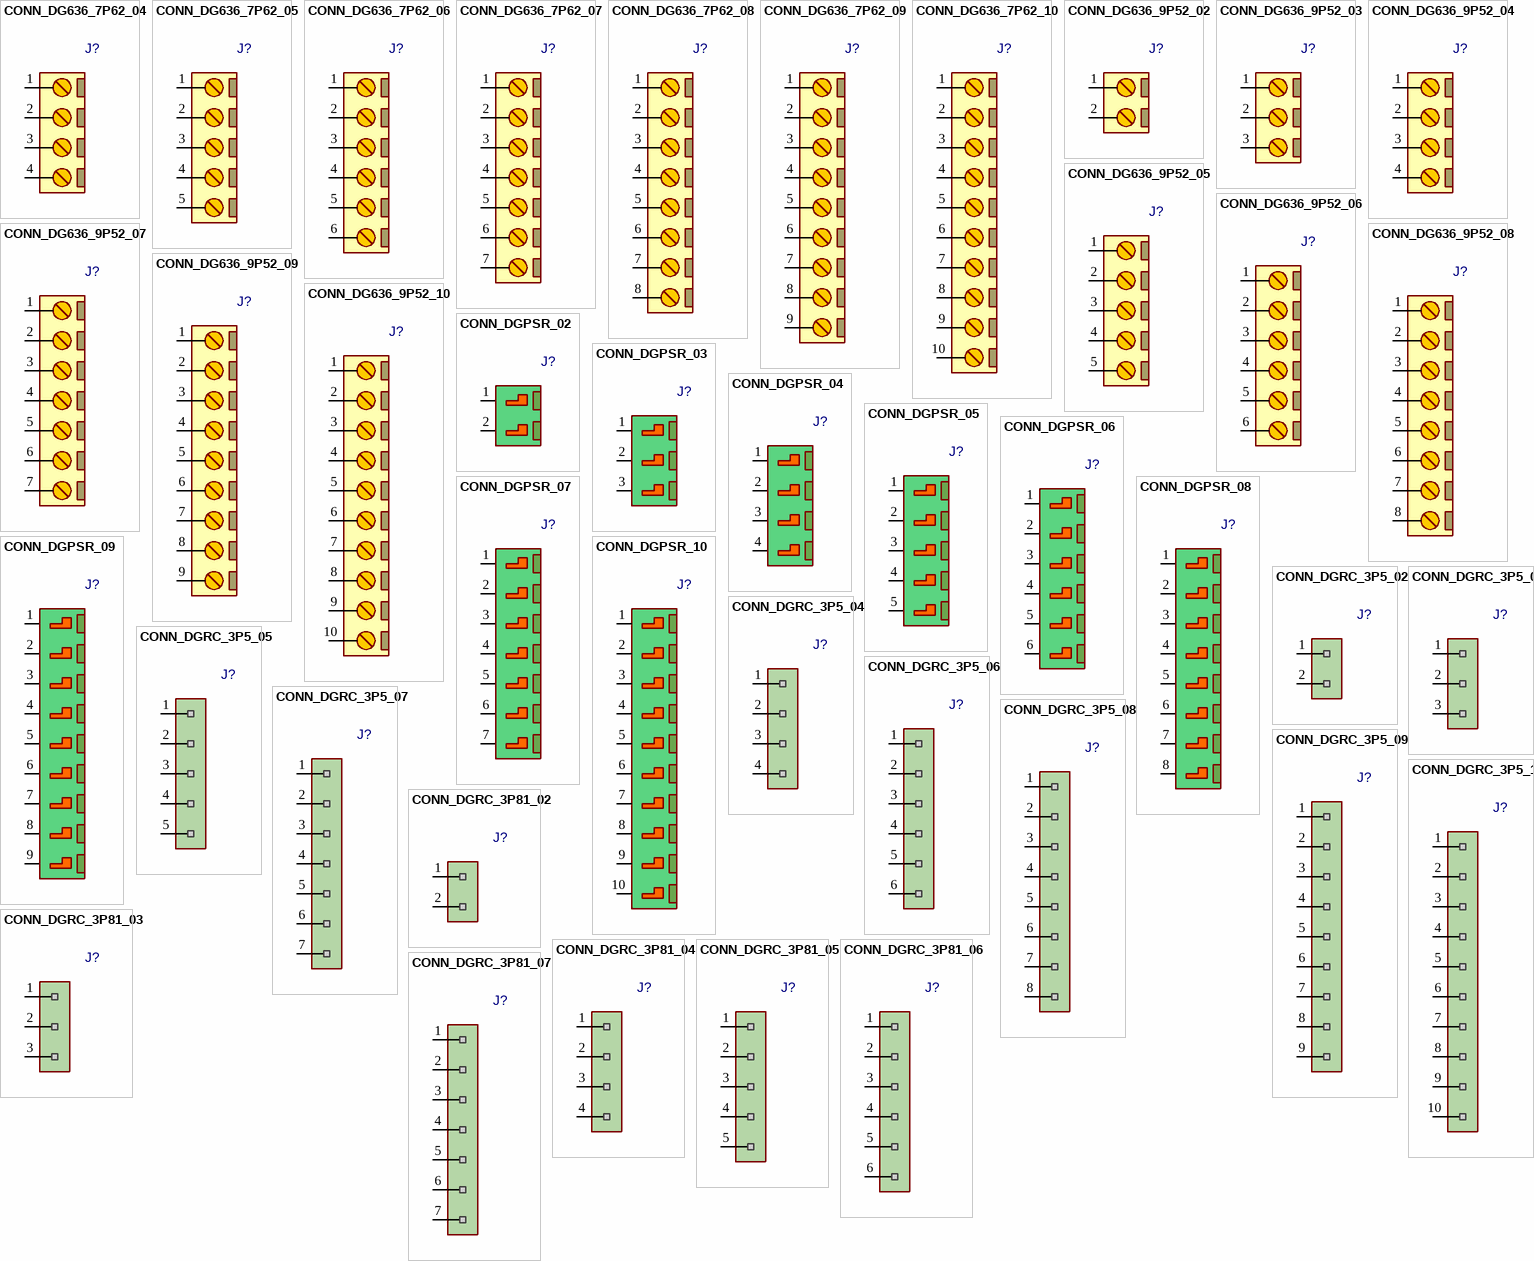
[diagram p10: symbols CONN_DG636_7P62_04 to CONN_DGRC_3P81_07]

## CONN_DG636_7P62_04
designator J?, comment DG636_7P62_04  (value not drawn)
Terminal Block Screw, Pitch 7.62mm, H 21.5mm; MANF: DEGSON; MANF_P#: DG636-7.62-04P; PARAM2: 450v, -40~105°C; PARAM: 30A; VALUE: DG636_7P62_04; Mount Type: THT; Type: Conn.
footprint DG636_7P62_04 (Terminal Screw, pitch 7.62mm, H 21.5mm)
pins: 1, 2, 3, 4

## CONN_DG636_7P62_05
designator J?, comment DG636_7P62_05  (value not drawn)
Terminal Block Screw, Pitch 7.62mm, H 21.5mm; MANF: DEGSON; MANF_P#: DG636-7.62-05P; PARAM2: 450v, -40~105°C; PARAM: 30A; VALUE: DG636_7P62_05; Mount Type: THT; Type: Conn.
footprint DG636_7P62_05 (Terminal Screw, pitch 7.62mm, H 21.5mm)
pins: 1, 2, 3, 4, 5